# Altium integrated library Lattice ispGDX.IntLib: 49 symbols (part 2 of 6)
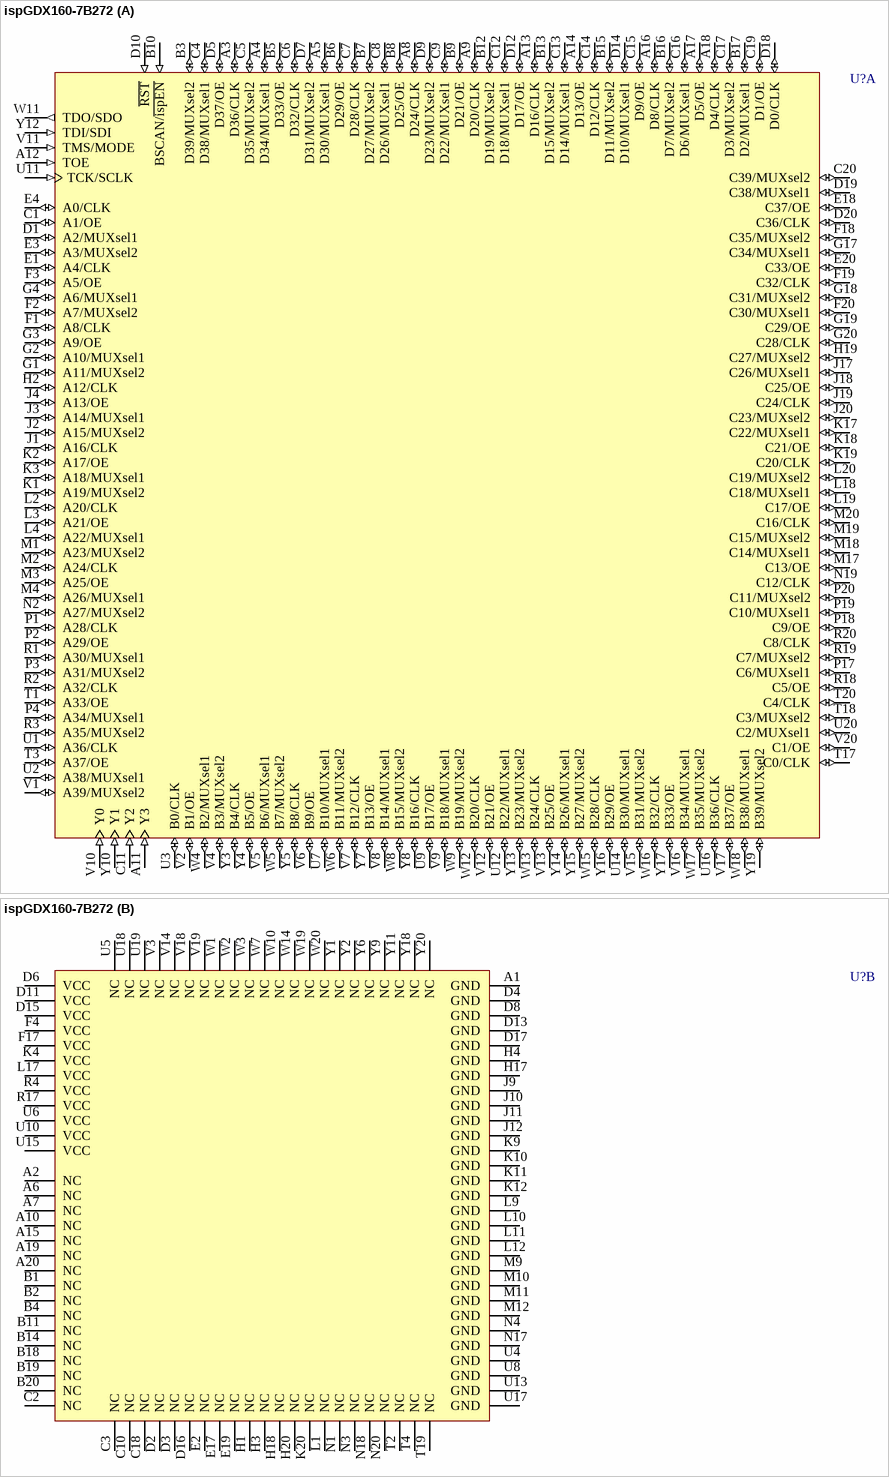
[diagram p45: symbol ispGDX160-7B272]

## ispGDX160-7B272
designator U?
In-System Programmable Generic Digital Crosspoint; Note: NC pins are not to be connected to any active signals, VCC or GND.; Published: 17-Jul-2002; LatestRevisionDate: 13-Apr-2006; LatestRevisionNote: IPC-7351 Footprint Added.; DatasheetVersion: Aug-2000; PackageVersion: pkg_32, Aug-2005; PackageReference: BGA272; Publisher: Altium Limited; PackageDescription: 272-Ball Ball Grid Array (BGA272); ComponentLink1Description: Manufacturer Link; ComponentLink1URL: http://www.latticesemi.com/products/digin/ispGDX/index.cfm; ComponentLink2Description: Datasheet; ComponentLink2URL: http://www.latticesemi.com/account/_download.cfm?AMID=126; ComponentLink3Description: Lattice Login; ComponentLink3URL: http://www.latticesemi.com/account/login.cfm
footprint BGA272 (BGA, 272-Leads, Body 27x27mm, Pitch 1.27mm)
3D model 160-BGA272 (272-Ball Ball Grid Array (BGA272))
part A pins: A3 D36/CLK (io), A4 D34/MUXsel1 (io), A5 D30/MUXsel1 (io), A8 D24/CLK (io), A9 D20/CLK (io), A11 Y3 (in), A12 TOE (in), A13 D16/CLK (io), A14 D13/OE (io), A16 D8/CLK (io), A17 D5/OE (io), A18 D4/CLK (io), B3 D39/MUXsel2 (io), B5 D33/OE (io), B6 D29/OE (io), B7 D27/MUXsel2 (io), B8 D25/OE (io), B9 D21/OE (io), B10 BSCAN/~{ispEN} (in), B12 D19/MUXsel2 (io), B13 D15/MUXsel2 (io), B15 D11/MUXsel2 (io), B16 D7/MUXsel2 (io), B17 D2/MUXsel1 (io), C1 A1/OE (io), C4 D38/MUXsel1 (io), C5 D35/MUXsel2 (io), C6 D32/CLK (io), C7 D28/CLK (io), C8 D26/MUXsel1 (io), C9 D22/MUXsel1 (io), C11 Y2 (in), C12 D18/MUXsel1 (io), C13 D14/MUXsel1 (io), C14 D12/CLK (io), C15 D9/OE (io), C16 D6/MUXsel1 (io), C17 D3/MUXsel2 (io), C19 D1/OE (io), C20 C39/MUXsel2 (io), D1 A2/MUXsel1 (io), D5 D37/OE (io), D7 D31/MUXsel2 (io), D9 D23/MUXsel2 (io), D10 ~{RST} (in), D12 D17/OE (io), D14 D10/MUXsel1 (io), D18 D0/CLK (io), D19 C38/MUXsel1 (io), D20 C36/CLK (io), E1 A4/CLK (io), E3 A3/MUXsel2 (io), E4 A0/CLK (io), E18 C37/OE (io), E20 C33/OE (io), F1 A8/CLK (io), F2 A7/MUXsel2 (io), F3 A5/OE (io), F18 C35/MUXsel2 (io), F19 C32/CLK (io), F20 C30/MUXsel1 (io), G1 A11/MUXsel2 (io), G2 A10/MUXsel1 (io), G3 A9/OE (io), G4 A6/MUXsel1 (io), G17 C34/MUXsel1 (io), G18 C31/MUXsel2 (io), G19 C29/OE (io), G20 C28/CLK (io), H2 A12/CLK (io), H19 C27/MUXsel2 (io), J1 A16/CLK (io), J2 A15/MUXsel2 (io), J3 A14/MUXsel1 (io), J4 A13/OE (io), J17 C26/MUXsel1 (io), J18 C25/OE (io), J19 C24/CLK (io), J20 C23/MUXsel2 (io), K1 A19/MUXsel2 (io), K2 A17/OE (io), K3 A18/MUXsel1 (io), K17 C22/MUXsel1 (io), K18 C21/OE (io), K19 C20/CLK (io), L2 A20/CLK (io), L3 A21/OE (io), L4 A22/MUXsel1 (io), L18 C18/MUXsel1 (io), L19 C17/OE (io), L20 C19/MUXsel2 (io), M1 A23/MUXsel2 (io), M2 A24/CLK (io), M3 A25/OE (io), M4 A26/MUXsel1 (io), M17 C13/OE (io), M18 C14/MUXsel1 (io), M19 C15/MUXsel2 (io), M20 C16/CLK (io), N2 A27/MUXsel2 (io), N19 C12/CLK (io), P1 A28/CLK (io), P2 A29/OE (io), P3 A31/MUXsel2 (io), P4 A34/MUXsel1 (io), P17 C6/MUXsel1 (io), P18 C9/OE (io), P19 C10/MUXsel1 (io), P20 C11/MUXsel2 (io), R1 A30/MUXsel1 (io), R2 A32/CLK (io), R3 A35/MUXsel2 (io), R18 C5/OE (io), R19 C7/MUXsel2 (io), R20 C8/CLK (io), T1 A33/OE (io), T3 A37/OE (io), T17 C0/CLK (io), T18 C3/MUXsel2 (io), T20 C4/CLK (io), U1 A36/CLK (io), U2 A38/MUXsel1 (io), U3 B0/CLK (io), U7 B10/MUXsel1 (io), U9 B17/OE (io), U11 TCK/SCLK (in), U12 B22/MUXsel1 (io), U14 B30/MUXsel1 (io), U16 B36/CLK (io), U20 C2/MUXsel1 (io), V1 A39/MUXsel2 (io), V2 B1/OE (io), V4 B3/MUXsel2 (io), V5 B6/MUXsel1 (io), V6 B9/OE (io), V7 B12/CLK (io), V8 B14/MUXsel1 (io), V9 B18/MUXsel1 (io), V10 Y0 (in), V11 TMS/MODE (in), V12 B21/OE (io), V13 B25/OE (io), V15 B31/MUXsel2 (io), V16 B34/MUXsel1 (io), V17 B37/OE (io), V20 C1/OE (io), W4 B2/MUXsel1 (io), W5 B7/MUXsel2 (io), W6 B11/MUXsel2 (io), W8 B15/MUXsel2 (io), W9 B19/MUXsel2 (io), W11 TDO/SDO (out), W12 B20/CLK (io), W13 B24/CLK (io), W15 B28/CLK (io), W16 B32/CLK (io), W17 B35/MUXsel2 (io), W18 B38/MUXsel1 (io), Y3 B4/CLK (io), Y4 B5/OE (io), Y5 B8/CLK (io), Y7 B13/OE (io), Y8 B16/CLK (io), Y10 Y1 (in), Y12 TDI/SDI (in), Y13 B23/MUXsel2 (io), Y14 B26/MUXsel1 (io), Y15 B27/MUXsel2 (io), Y16 B29/OE (io), Y17 B33/OE (io), Y19 B39/MUXsel2 (io)
part B pins: A1 GND (power), A2 NC, A6 NC, A7 NC, A10 NC, A15 NC, A19 NC, A20 NC, B1 NC, B2 NC, B4 NC, B11 NC, B14 NC, B18 NC, B19 NC, B20 NC, C2 NC, C3 NC, C10 NC, C18 NC, D2 NC, D3 NC, D4 GND (power), D6 VCC (power), D8 GND (power), D11 VCC (power), D13 GND (power), D15 VCC (power), D16 NC, D17 GND (power), E2 NC, E17 NC, E19 NC, F4 VCC (power), F17 VCC (power), H1 NC, H3 NC, H4 GND (power), H17 GND (power), H18 NC, H20 NC, J9 GND (power), J10 GND (power), J11 GND (power), J12 GND (power), K4 VCC (power), K9 GND (power), K10 GND (power), K11 GND (power), K12 GND (power), K20 NC, L1 NC, L9 GND (power), L10 GND (power), L11 GND (power), L12 GND (power), L17 VCC (power), M9 GND (power), M10 GND (power), M11 GND (power), M12 GND (power), N1 NC, N3 NC, N4 GND (power), N17 GND (power), N18 NC, N20 NC, R4 VCC (power), R17 VCC (power), T2 NC, T4 NC, T19 NC, U4 GND (power), U5 NC, U6 VCC (power), U8 GND (power), U10 VCC (power), U13 GND (power), U15 VCC (power), U17 GND (power), U18 NC, U19 NC, V3 NC, V14 NC, V18 NC, V19 NC, W1 NC, W2 NC, W3 NC, W7 NC, W10 NC, W14 NC, W19 NC, W20 NC, Y1 NC, Y2 NC, Y6 NC, Y9 NC, Y11 NC, Y18 NC, Y20 NC

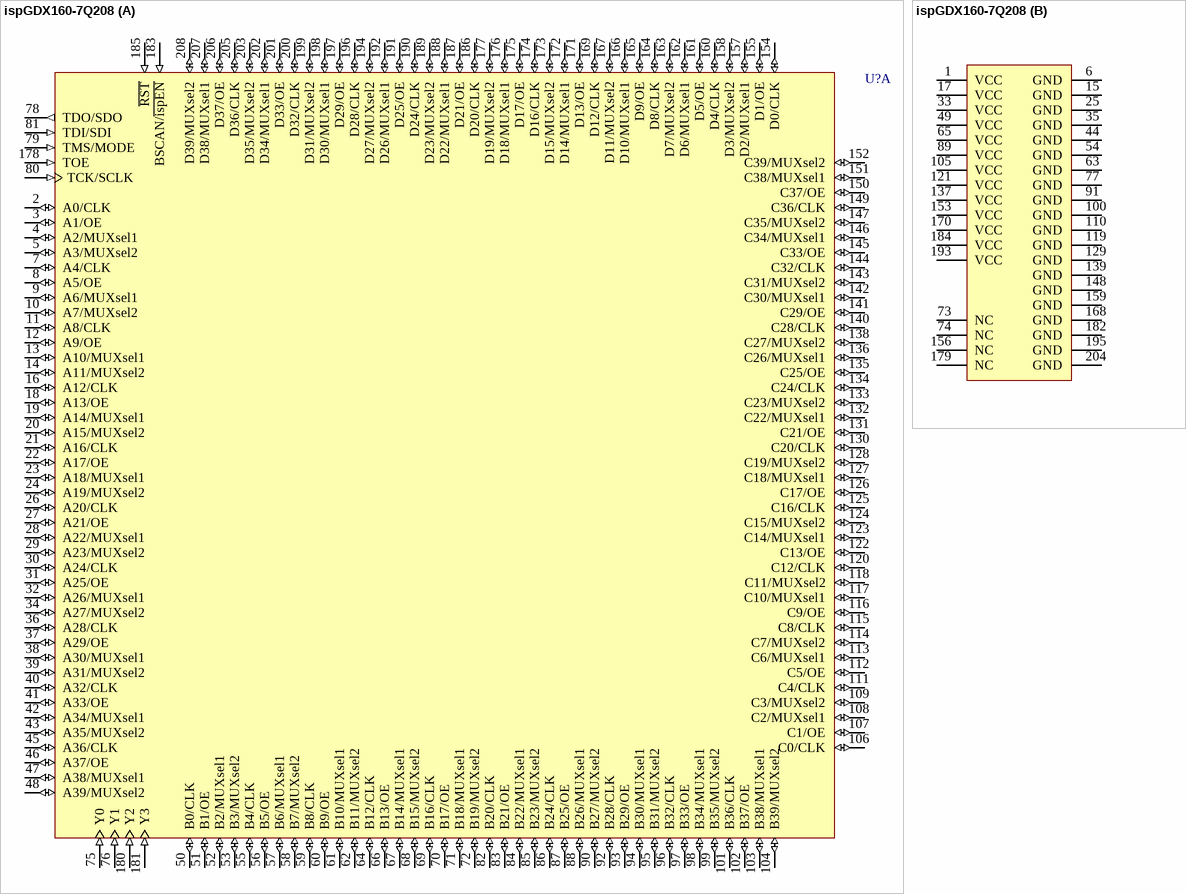
[diagram p7: symbol ispGDX160-7Q208]

## ispGDX160-7Q208
designator U?
In-System Programmable Generic Digital Crosspoint; Note: NC pins are not to be connected to any active signals, VCC or GND.; Published: 17-Jul-2002; LatestRevisionDate: 13-Apr-2006; LatestRevisionNote: IPC-7351 Footprint Added.; DatasheetVersion: Aug-2000; PackageVersion: pkg_32, Aug-2005; PackageReference: PQFP208; Publisher: Altium Limited; PackageDescription: 208-Pin Plastic Quad Flat Pack (PQFP208); Code_JEDEC: MO-143-FAI; ComponentLink1Description: Manufacturer Link; ComponentLink1URL: http://www.latticesemi.com/products/digin/ispGDX/index.cfm; ComponentLink2Description: Datasheet; ComponentLink2URL: http://www.latticesemi.com/account/_download.cfm?AMID=126; ComponentLink3Description: Lattice Login; ComponentLink3URL: http://www.latticesemi.com/account/login.cfm
footprint PQFP208_N (Shrink QFP, 208-Leads, Body 28x28mm, Pitch 0.5mm, IPC Medium Density)
footprint PQFP208_L (Shrink QFP, 208-Leads, Body 28x28mm, Pitch 0.5mm, IPC High Density)
footprint PQFP208_M (Shrink QFP, 208-Leads, Body 28x28mm, Pitch 0.5mm, IPC Low Density)
3D model 160-PQFP208 (208-Pin Plastic Quad Flat Pack (PQFP208))
part A pins: 2 A0/CLK (io), 3 A1/OE (io), 4 A2/MUXsel1 (io), 5 A3/MUXsel2 (io), 7 A4/CLK (io), 8 A5/OE (io), 9 A6/MUXsel1 (io), 10 A7/MUXsel2 (io), 11 A8/CLK (io), 12 A9/OE (io), 13 A10/MUXsel1 (io), 14 A11/MUXsel2 (io), 16 A12/CLK (io), 18 A13/OE (io), 19 A14/MUXsel1 (io), 20 A15/MUXsel2 (io), 21 A16/CLK (io), 22 A17/OE (io), 23 A18/MUXsel1 (io), 24 A19/MUXsel2 (io), 26 A20/CLK (io), 27 A21/OE (io), 28 A22/MUXsel1 (io), 29 A23/MUXsel2 (io), 30 A24/CLK (io), 31 A25/OE (io), 32 A26/MUXsel1 (io), 34 A27/MUXsel2 (io), 36 A28/CLK (io), 37 A29/OE (io), 38 A30/MUXsel1 (io), 39 A31/MUXsel2 (io), 40 A32/CLK (io), 41 A33/OE (io), 42 A34/MUXsel1 (io), 43 A35/MUXsel2 (io), 45 A36/CLK (io), 46 A37/OE (io), 47 A38/MUXsel1 (io), 48 A39/MUXsel2 (io), 50 B0/CLK (io), 51 B1/OE (io), 52 B2/MUXsel1 (io), 53 B3/MUXsel2 (io), 55 B4/CLK (io), 56 B5/OE (io), 57 B6/MUXsel1 (io), 58 B7/MUXsel2 (io), 59 B8/CLK (io), 60 B9/OE (io), 61 B10/MUXsel1 (io), 62 B11/MUXsel2 (io), 64 B12/CLK (io), 66 B13/OE (io), 67 B14/MUXsel1 (io), 68 B15/MUXsel2 (io), 69 B16/CLK (io), 70 B17/OE (io), 71 B18/MUXsel1 (io), 72 B19/MUXsel2 (io), 75 Y0 (in), 76 Y1 (in), 78 TDO/SDO (out), 79 TMS/MODE (in), 80 TCK/SCLK (in), 81 TDI/SDI (in), 82 B20/CLK (io), 83 B21/OE (io), 84 B22/MUXsel1 (io), 85 B23/MUXsel2 (io), 86 B24/CLK (io), 87 B25/OE (io), 88 B26/MUXsel1 (io), 90 B27/MUXsel2 (io), 92 B28/CLK (io), 93 B29/OE (io), 94 B30/MUXsel1 (io), 95 B31/MUXsel2 (io), 96 B32/CLK (io), 97 B33/OE (io), 98 B34/MUXsel1 (io), 99 B35/MUXsel2 (io), 101 B36/CLK (io), 102 B37/OE (io), 103 B38/MUXsel1 (io), 104 B39/MUXsel2 (io), 106 C0/CLK (io), 107 C1/OE (io), 108 C2/MUXsel1 (io), 109 C3/MUXsel2 (io), 111 C4/CLK (io), 112 C5/OE (io), 113 C6/MUXsel1 (io), 114 C7/MUXsel2 (io), 115 C8/CLK (io), 116 C9/OE (io), 117 C10/MUXsel1 (io), 118 C11/MUXsel2 (io), 120 C12/CLK (io), 122 C13/OE (io), 123 C14/MUXsel1 (io), 124 C15/MUXsel2 (io), 125 C16/CLK (io), 126 C17/OE (io), 127 C18/MUXsel1 (io), 128 C19/MUXsel2 (io), 130 C20/CLK (io), 131 C21/OE (io), 132 C22/MUXsel1 (io), 133 C23/MUXsel2 (io), 134 C24/CLK (io), 135 C25/OE (io), 136 C26/MUXsel1 (io), 138 C27/MUXsel2 (io), 140 C28/CLK (io), 141 C29/OE (io), 142 C30/MUXsel1 (io), 143 C31/MUXsel2 (io), 144 C32/CLK (io), 145 C33/OE (io), 146 C34/MUXsel1 (io), 147 C35/MUXsel2 (io), 149 C36/CLK (io), 150 C37/OE (io), 151 C38/MUXsel1 (io), 152 C39/MUXsel2 (io), 154 D0/CLK (io), 155 D1/OE (io), 157 D2/MUXsel1 (io), 158 D3/MUXsel2 (io), 160 D4/CLK (io), 161 D5/OE (io), 162 D6/MUXsel1 (io), 163 D7/MUXsel2 (io), 164 D8/CLK (io), 165 D9/OE (io), 166 D10/MUXsel1 (io), 167 D11/MUXsel2 (io), 169 D12/CLK (io), 171 D13/OE (io), 172 D14/MUXsel1 (io), 173 D15/MUXsel2 (io), 174 D16/CLK (io), 175 D17/OE (io), 176 D18/MUXsel1 (io), 177 D19/MUXsel2 (io), 178 TOE (in), 180 Y2 (in), 181 Y3 (in), 183 BSCAN/~{ispEN} (in), 185 ~{RST} (in), 186 D20/CLK (io), 187 D21/OE (io), 188 D22/MUXsel1 (io), 189 D23/MUXsel2 (io), 190 D24/CLK (io), 191 D25/OE (io), 192 D26/MUXsel1 (io), 194 D27/MUXsel2 (io), 196 D28/CLK (io), 197 D29/OE (io), 198 D30/MUXsel1 (io), 199 D31/MUXsel2 (io), 200 D32/CLK (io), 201 D33/OE (io), 202 D34/MUXsel1 (io), 203 D35/MUXsel2 (io), 205 D36/CLK (io), 206 D37/OE (io), 207 D38/MUXsel1 (io), 208 D39/MUXsel2 (io)
part B pins: 1 VCC (power), 6 GND (power), 15 GND (power), 17 VCC (power), 25 GND (power), 33 VCC (power), 35 GND (power), 44 GND (power), 49 VCC (power), 54 GND (power), 63 GND (power), 65 VCC (power), 73 NC, 74 NC, 77 GND (power), 89 VCC (power), 91 GND (power), 100 GND (power), 105 VCC (power), 110 GND (power), 119 GND (power), 121 VCC (power), 129 GND (power), 137 VCC (power), 139 GND (power), 148 GND (power), 153 VCC (power), 156 NC, 159 GND (power), 168 GND (power), 170 VCC (power), 179 NC, 182 GND (power), 184 VCC (power), 193 VCC (power), 195 GND (power), 204 GND (power)

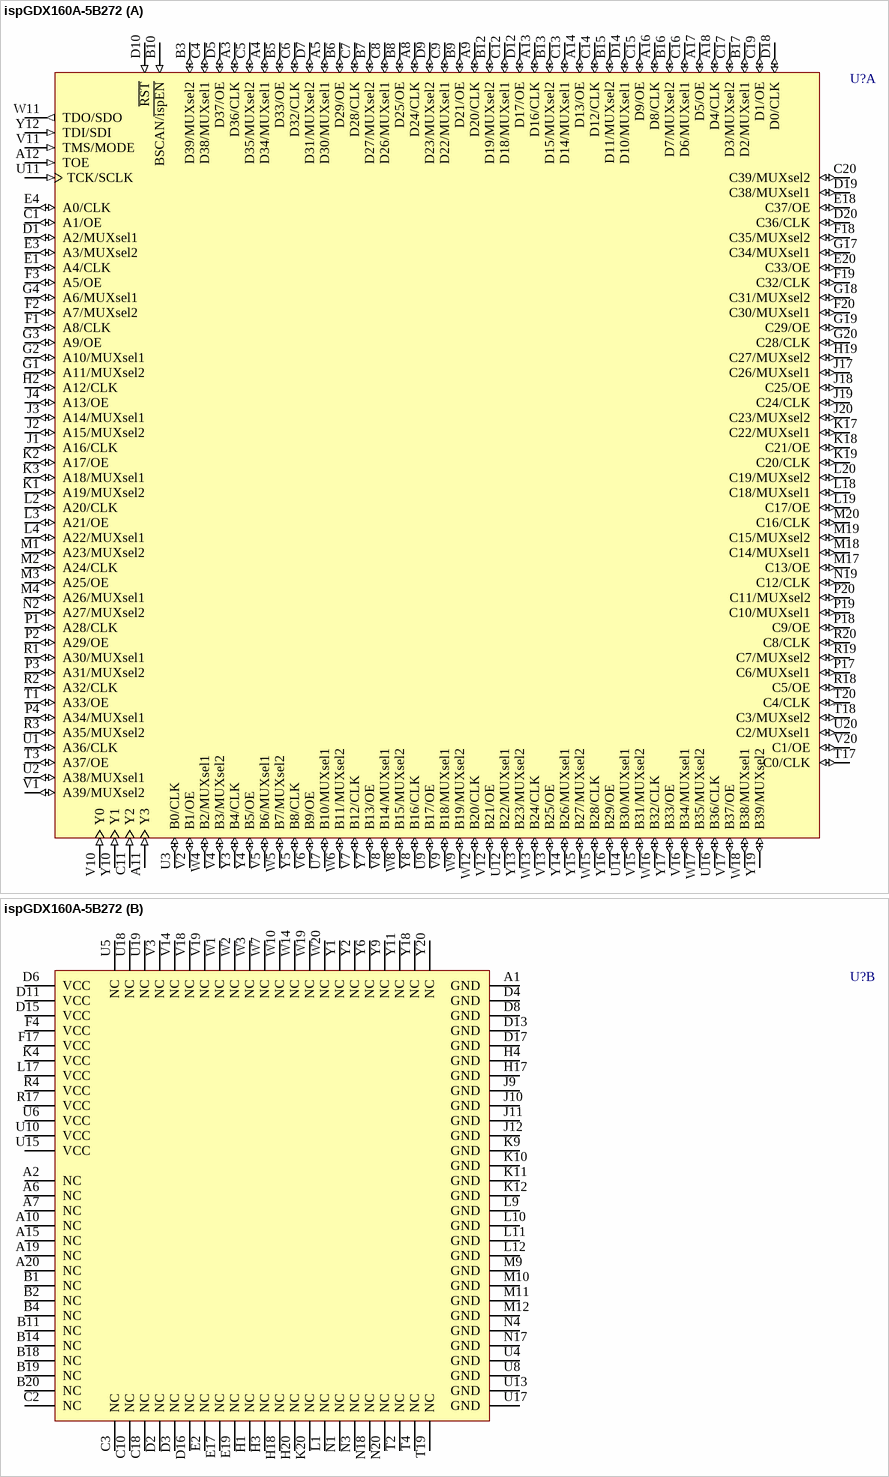
[diagram p8: symbol ispGDX160A-5B272]

## ispGDX160A-5B272
designator U?
In-System Programmable Generic Digital Crosspoint; Note: NC pins are not to be connected to any active signals, VCC or GND.; Published: 17-Jul-2002; LatestRevisionDate: 13-Apr-2006; LatestRevisionNote: IPC-7351 Footprint Added.; DatasheetVersion: Aug-2000; PackageVersion: pkg_32, Aug-2005; PackageReference: BGA272; Publisher: Altium Limited; PackageDescription: 272-Ball Ball Grid Array (BGA272); ComponentLink1Description: Manufacturer Link; ComponentLink1URL: http://www.latticesemi.com/products/digin/ispGDX/index.cfm; ComponentLink2Description: Datasheet; ComponentLink2URL: http://www.latticesemi.com/account/_download.cfm?AMID=126; ComponentLink3Description: Lattice Login; ComponentLink3URL: http://www.latticesemi.com/account/login.cfm
footprint BGA272 (BGA, 272-Leads, Body 27x27mm, Pitch 1.27mm)
3D model 160A-BGA272 (272-Ball Ball Grid Array (BGA272))
part A pins: A3 D36/CLK (io), A4 D34/MUXsel1 (io), A5 D30/MUXsel1 (io), A8 D24/CLK (io), A9 D20/CLK (io), A11 Y3 (in), A12 TOE (in), A13 D16/CLK (io), A14 D13/OE (io), A16 D8/CLK (io), A17 D5/OE (io), A18 D4/CLK (io), B3 D39/MUXsel2 (io), B5 D33/OE (io), B6 D29/OE (io), B7 D27/MUXsel2 (io), B8 D25/OE (io), B9 D21/OE (io), B10 BSCAN/~{ispEN} (in), B12 D19/MUXsel2 (io), B13 D15/MUXsel2 (io), B15 D11/MUXsel2 (io), B16 D7/MUXsel2 (io), B17 D2/MUXsel1 (io), C1 A1/OE (io), C4 D38/MUXsel1 (io), C5 D35/MUXsel2 (io), C6 D32/CLK (io), C7 D28/CLK (io), C8 D26/MUXsel1 (io), C9 D22/MUXsel1 (io), C11 Y2 (in), C12 D18/MUXsel1 (io), C13 D14/MUXsel1 (io), C14 D12/CLK (io), C15 D9/OE (io), C16 D6/MUXsel1 (io), C17 D3/MUXsel2 (io), C19 D1/OE (io), C20 C39/MUXsel2 (io), D1 A2/MUXsel1 (io), D5 D37/OE (io), D7 D31/MUXsel2 (io), D9 D23/MUXsel2 (io), D10 ~{RST} (in), D12 D17/OE (io), D14 D10/MUXsel1 (io), D18 D0/CLK (io), D19 C38/MUXsel1 (io), D20 C36/CLK (io), E1 A4/CLK (io), E3 A3/MUXsel2 (io), E4 A0/CLK (io), E18 C37/OE (io), E20 C33/OE (io), F1 A8/CLK (io), F2 A7/MUXsel2 (io), F3 A5/OE (io), F18 C35/MUXsel2 (io), F19 C32/CLK (io), F20 C30/MUXsel1 (io), G1 A11/MUXsel2 (io), G2 A10/MUXsel1 (io), G3 A9/OE (io), G4 A6/MUXsel1 (io), G17 C34/MUXsel1 (io), G18 C31/MUXsel2 (io), G19 C29/OE (io), G20 C28/CLK (io), H2 A12/CLK (io), H19 C27/MUXsel2 (io), J1 A16/CLK (io), J2 A15/MUXsel2 (io), J3 A14/MUXsel1 (io), J4 A13/OE (io), J17 C26/MUXsel1 (io), J18 C25/OE (io), J19 C24/CLK (io), J20 C23/MUXsel2 (io), K1 A19/MUXsel2 (io), K2 A17/OE (io), K3 A18/MUXsel1 (io), K17 C22/MUXsel1 (io), K18 C21/OE (io), K19 C20/CLK (io), L2 A20/CLK (io), L3 A21/OE (io), L4 A22/MUXsel1 (io), L18 C18/MUXsel1 (io), L19 C17/OE (io), L20 C19/MUXsel2 (io), M1 A23/MUXsel2 (io), M2 A24/CLK (io), M3 A25/OE (io), M4 A26/MUXsel1 (io), M17 C13/OE (io), M18 C14/MUXsel1 (io), M19 C15/MUXsel2 (io), M20 C16/CLK (io), N2 A27/MUXsel2 (io), N19 C12/CLK (io), P1 A28/CLK (io), P2 A29/OE (io), P3 A31/MUXsel2 (io), P4 A34/MUXsel1 (io), P17 C6/MUXsel1 (io), P18 C9/OE (io), P19 C10/MUXsel1 (io), P20 C11/MUXsel2 (io), R1 A30/MUXsel1 (io), R2 A32/CLK (io), R3 A35/MUXsel2 (io), R18 C5/OE (io), R19 C7/MUXsel2 (io), R20 C8/CLK (io), T1 A33/OE (io), T3 A37/OE (io), T17 C0/CLK (io), T18 C3/MUXsel2 (io), T20 C4/CLK (io), U1 A36/CLK (io), U2 A38/MUXsel1 (io), U3 B0/CLK (io), U7 B10/MUXsel1 (io), U9 B17/OE (io), U11 TCK/SCLK (in), U12 B22/MUXsel1 (io), U14 B30/MUXsel1 (io), U16 B36/CLK (io), U20 C2/MUXsel1 (io), V1 A39/MUXsel2 (io), V2 B1/OE (io), V4 B3/MUXsel2 (io), V5 B6/MUXsel1 (io), V6 B9/OE (io), V7 B12/CLK (io), V8 B14/MUXsel1 (io), V9 B18/MUXsel1 (io), V10 Y0 (in), V11 TMS/MODE (in), V12 B21/OE (io), V13 B25/OE (io), V15 B31/MUXsel2 (io), V16 B34/MUXsel1 (io), V17 B37/OE (io), V20 C1/OE (io), W4 B2/MUXsel1 (io), W5 B7/MUXsel2 (io), W6 B11/MUXsel2 (io), W8 B15/MUXsel2 (io), W9 B19/MUXsel2 (io), W11 TDO/SDO (out), W12 B20/CLK (io), W13 B24/CLK (io), W15 B28/CLK (io), W16 B32/CLK (io), W17 B35/MUXsel2 (io), W18 B38/MUXsel1 (io), Y3 B4/CLK (io), Y4 B5/OE (io), Y5 B8/CLK (io), Y7 B13/OE (io), Y8 B16/CLK (io), Y10 Y1 (in), Y12 TDI/SDI (in), Y13 B23/MUXsel2 (io), Y14 B26/MUXsel1 (io), Y15 B27/MUXsel2 (io), Y16 B29/OE (io), Y17 B33/OE (io), Y19 B39/MUXsel2 (io)
part B pins: A1 GND (power), A2 NC, A6 NC, A7 NC, A10 NC, A15 NC, A19 NC, A20 NC, B1 NC, B2 NC, B4 NC, B11 NC, B14 NC, B18 NC, B19 NC, B20 NC, C2 NC, C3 NC, C10 NC, C18 NC, D2 NC, D3 NC, D4 GND (power), D6 VCC (power), D8 GND (power), D11 VCC (power), D13 GND (power), D15 VCC (power), D16 NC, D17 GND (power), E2 NC, E17 NC, E19 NC, F4 VCC (power), F17 VCC (power), H1 NC, H3 NC, H4 GND (power), H17 GND (power), H18 NC, H20 NC, J9 GND (power), J10 GND (power), J11 GND (power), J12 GND (power), K4 VCC (power), K9 GND (power), K10 GND (power), K11 GND (power), K12 GND (power), K20 NC, L1 NC, L9 GND (power), L10 GND (power), L11 GND (power), L12 GND (power), L17 VCC (power), M9 GND (power), M10 GND (power), M11 GND (power), M12 GND (power), N1 NC, N3 NC, N4 GND (power), N17 GND (power), N18 NC, N20 NC, R4 VCC (power), R17 VCC (power), T2 NC, T4 NC, T19 NC, U4 GND (power), U5 NC, U6 VCC (power), U8 GND (power), U10 VCC (power), U13 GND (power), U15 VCC (power), U17 GND (power), U18 NC, U19 NC, V3 NC, V14 NC, V18 NC, V19 NC, W1 NC, W2 NC, W3 NC, W7 NC, W10 NC, W14 NC, W19 NC, W20 NC, Y1 NC, Y2 NC, Y6 NC, Y9 NC, Y11 NC, Y18 NC, Y20 NC

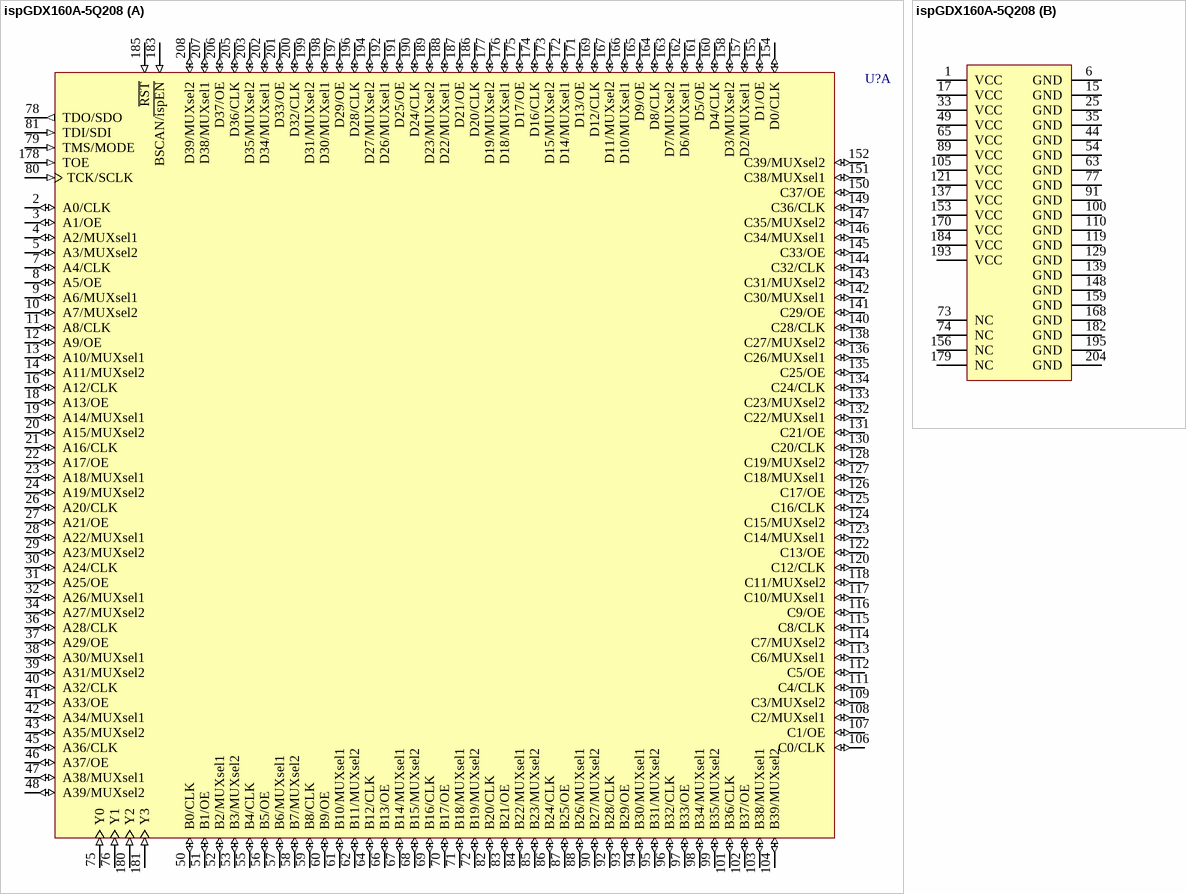
[diagram p9: symbol ispGDX160A-5Q208]

## ispGDX160A-5Q208
designator U?
In-System Programmable Generic Digital Crosspoint; Note: NC pins are not to be connected to any active signals, VCC or GND.; Published: 17-Jul-2002; LatestRevisionDate: 13-Apr-2006; LatestRevisionNote: IPC-7351 Footprint Added.; DatasheetVersion: Aug-2000; PackageVersion: pkg_32, Aug-2005; PackageReference: PQFP208; Publisher: Altium Limited; PackageDescription: 208-Pin Plastic Quad Flat Pack (PQFP208); Code_JEDEC: MO-143-FAI; ComponentLink1Description: Manufacturer Link; ComponentLink1URL: http://www.latticesemi.com/products/digin/ispGDX/index.cfm; ComponentLink2Description: Datasheet; ComponentLink2URL: http://www.latticesemi.com/account/_download.cfm?AMID=126; ComponentLink3Description: Lattice Login; ComponentLink3URL: http://www.latticesemi.com/account/login.cfm
footprint PQFP208_N (Shrink QFP, 208-Leads, Body 28x28mm, Pitch 0.5mm, IPC Medium Density)
footprint PQFP208_L (Shrink QFP, 208-Leads, Body 28x28mm, Pitch 0.5mm, IPC High Density)
footprint PQFP208_M (Shrink QFP, 208-Leads, Body 28x28mm, Pitch 0.5mm, IPC Low Density)
3D model 160A-PQFP208 (208-Pin Plastic Quad Flat Pack (PQFP208))
part A pins: 2 A0/CLK (io), 3 A1/OE (io), 4 A2/MUXsel1 (io), 5 A3/MUXsel2 (io), 7 A4/CLK (io), 8 A5/OE (io), 9 A6/MUXsel1 (io), 10 A7/MUXsel2 (io), 11 A8/CLK (io), 12 A9/OE (io), 13 A10/MUXsel1 (io), 14 A11/MUXsel2 (io), 16 A12/CLK (io), 18 A13/OE (io), 19 A14/MUXsel1 (io), 20 A15/MUXsel2 (io), 21 A16/CLK (io), 22 A17/OE (io), 23 A18/MUXsel1 (io), 24 A19/MUXsel2 (io), 26 A20/CLK (io), 27 A21/OE (io), 28 A22/MUXsel1 (io), 29 A23/MUXsel2 (io), 30 A24/CLK (io), 31 A25/OE (io), 32 A26/MUXsel1 (io), 34 A27/MUXsel2 (io), 36 A28/CLK (io), 37 A29/OE (io), 38 A30/MUXsel1 (io), 39 A31/MUXsel2 (io), 40 A32/CLK (io), 41 A33/OE (io), 42 A34/MUXsel1 (io), 43 A35/MUXsel2 (io), 45 A36/CLK (io), 46 A37/OE (io), 47 A38/MUXsel1 (io), 48 A39/MUXsel2 (io), 50 B0/CLK (io), 51 B1/OE (io), 52 B2/MUXsel1 (io), 53 B3/MUXsel2 (io), 55 B4/CLK (io), 56 B5/OE (io), 57 B6/MUXsel1 (io), 58 B7/MUXsel2 (io), 59 B8/CLK (io), 60 B9/OE (io), 61 B10/MUXsel1 (io), 62 B11/MUXsel2 (io), 64 B12/CLK (io), 66 B13/OE (io), 67 B14/MUXsel1 (io), 68 B15/MUXsel2 (io), 69 B16/CLK (io), 70 B17/OE (io), 71 B18/MUXsel1 (io), 72 B19/MUXsel2 (io), 75 Y0 (in), 76 Y1 (in), 78 TDO/SDO (out), 79 TMS/MODE (in), 80 TCK/SCLK (in), 81 TDI/SDI (in), 82 B20/CLK (io), 83 B21/OE (io), 84 B22/MUXsel1 (io), 85 B23/MUXsel2 (io), 86 B24/CLK (io), 87 B25/OE (io), 88 B26/MUXsel1 (io), 90 B27/MUXsel2 (io), 92 B28/CLK (io), 93 B29/OE (io), 94 B30/MUXsel1 (io), 95 B31/MUXsel2 (io), 96 B32/CLK (io), 97 B33/OE (io), 98 B34/MUXsel1 (io), 99 B35/MUXsel2 (io), 101 B36/CLK (io), 102 B37/OE (io), 103 B38/MUXsel1 (io), 104 B39/MUXsel2 (io), 106 C0/CLK (io), 107 C1/OE (io), 108 C2/MUXsel1 (io), 109 C3/MUXsel2 (io), 111 C4/CLK (io), 112 C5/OE (io), 113 C6/MUXsel1 (io), 114 C7/MUXsel2 (io), 115 C8/CLK (io), 116 C9/OE (io), 117 C10/MUXsel1 (io), 118 C11/MUXsel2 (io), 120 C12/CLK (io), 122 C13/OE (io), 123 C14/MUXsel1 (io), 124 C15/MUXsel2 (io), 125 C16/CLK (io), 126 C17/OE (io), 127 C18/MUXsel1 (io), 128 C19/MUXsel2 (io), 130 C20/CLK (io), 131 C21/OE (io), 132 C22/MUXsel1 (io), 133 C23/MUXsel2 (io), 134 C24/CLK (io), 135 C25/OE (io), 136 C26/MUXsel1 (io), 138 C27/MUXsel2 (io), 140 C28/CLK (io), 141 C29/OE (io), 142 C30/MUXsel1 (io), 143 C31/MUXsel2 (io), 144 C32/CLK (io), 145 C33/OE (io), 146 C34/MUXsel1 (io), 147 C35/MUXsel2 (io), 149 C36/CLK (io), 150 C37/OE (io), 151 C38/MUXsel1 (io), 152 C39/MUXsel2 (io), 154 D0/CLK (io), 155 D1/OE (io), 157 D2/MUXsel1 (io), 158 D3/MUXsel2 (io), 160 D4/CLK (io), 161 D5/OE (io), 162 D6/MUXsel1 (io), 163 D7/MUXsel2 (io), 164 D8/CLK (io), 165 D9/OE (io), 166 D10/MUXsel1 (io), 167 D11/MUXsel2 (io), 169 D12/CLK (io), 171 D13/OE (io), 172 D14/MUXsel1 (io), 173 D15/MUXsel2 (io), 174 D16/CLK (io), 175 D17/OE (io), 176 D18/MUXsel1 (io), 177 D19/MUXsel2 (io), 178 TOE (in), 180 Y2 (in), 181 Y3 (in), 183 BSCAN/~{ispEN} (in), 185 ~{RST} (in), 186 D20/CLK (io), 187 D21/OE (io), 188 D22/MUXsel1 (io), 189 D23/MUXsel2 (io), 190 D24/CLK (io), 191 D25/OE (io), 192 D26/MUXsel1 (io), 194 D27/MUXsel2 (io), 196 D28/CLK (io), 197 D29/OE (io), 198 D30/MUXsel1 (io), 199 D31/MUXsel2 (io), 200 D32/CLK (io), 201 D33/OE (io), 202 D34/MUXsel1 (io), 203 D35/MUXsel2 (io), 205 D36/CLK (io), 206 D37/OE (io), 207 D38/MUXsel1 (io), 208 D39/MUXsel2 (io)
part B pins: 1 VCC (power), 6 GND (power), 15 GND (power), 17 VCC (power), 25 GND (power), 33 VCC (power), 35 GND (power), 44 GND (power), 49 VCC (power), 54 GND (power), 63 GND (power), 65 VCC (power), 73 NC, 74 NC, 77 GND (power), 89 VCC (power), 91 GND (power), 100 GND (power), 105 VCC (power), 110 GND (power), 119 GND (power), 121 VCC (power), 129 GND (power), 137 VCC (power), 139 GND (power), 148 GND (power), 153 VCC (power), 156 NC, 159 GND (power), 168 GND (power), 170 VCC (power), 179 NC, 182 GND (power), 184 VCC (power), 193 VCC (power), 195 GND (power), 204 GND (power)

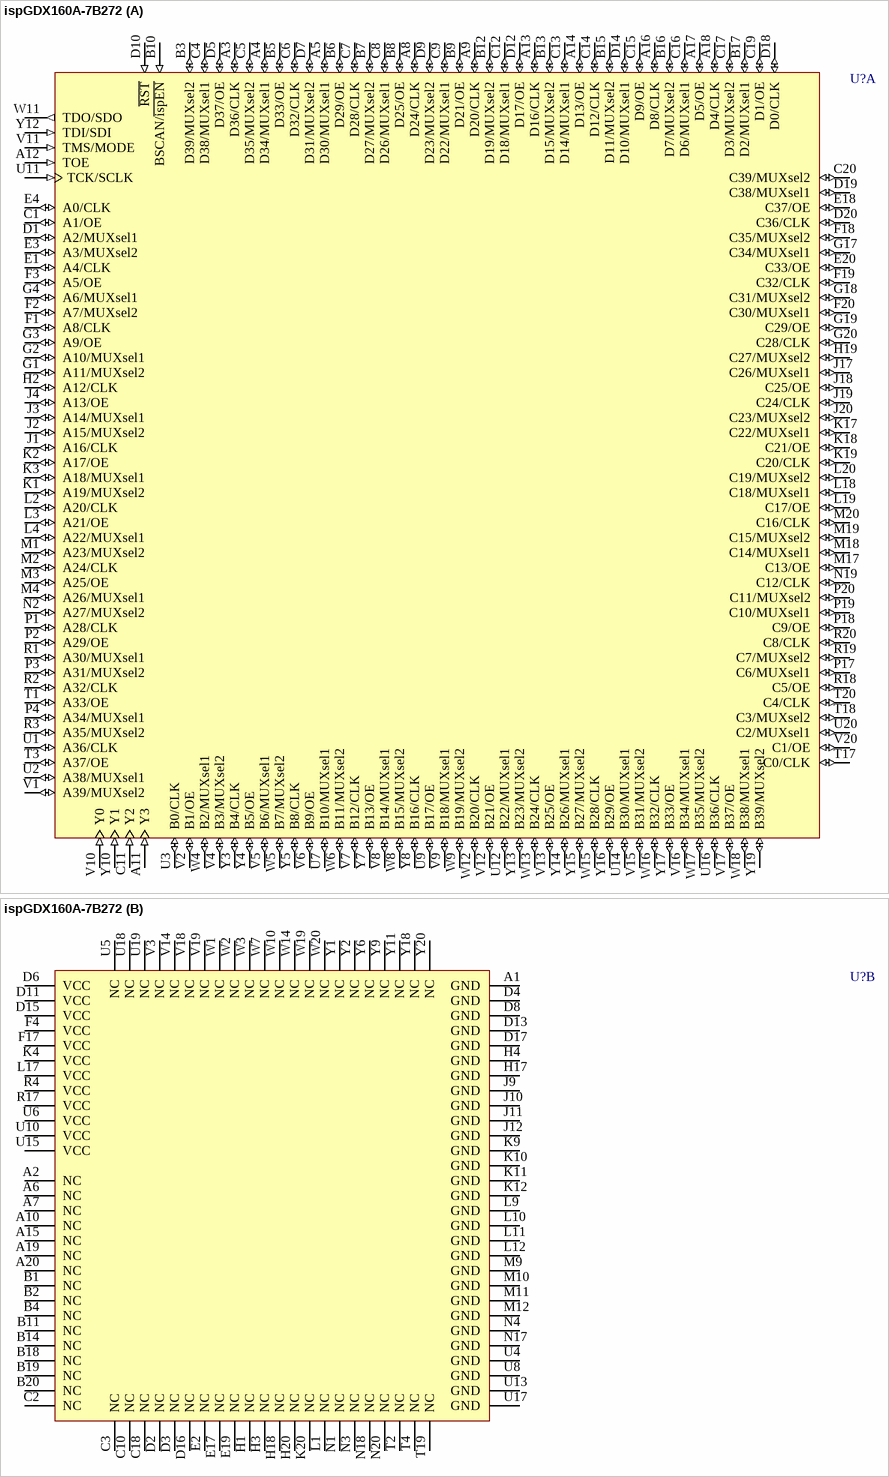
[diagram p10: symbol ispGDX160A-7B272]

## ispGDX160A-7B272
designator U?
In-System Programmable Generic Digital Crosspoint; Note: NC pins are not to be connected to any active signals, VCC or GND.; Published: 17-Jul-2002; LatestRevisionDate: 13-Apr-2006; LatestRevisionNote: IPC-7351 Footprint Added.; DatasheetVersion: Aug-2000; PackageVersion: pkg_32, Aug-2005; PackageReference: BGA272; Publisher: Altium Limited; PackageDescription: 272-Ball Ball Grid Array (BGA272); ComponentLink1Description: Manufacturer Link; ComponentLink1URL: http://www.latticesemi.com/products/digin/ispGDX/index.cfm; ComponentLink2Description: Datasheet; ComponentLink2URL: http://www.latticesemi.com/account/_download.cfm?AMID=126; ComponentLink3Description: Lattice Login; ComponentLink3URL: http://www.latticesemi.com/account/login.cfm
footprint BGA272 (BGA, 272-Leads, Body 27x27mm, Pitch 1.27mm)
3D model 160A-BGA272 (272-Ball Ball Grid Array (BGA272))
part A pins: A3 D36/CLK (io), A4 D34/MUXsel1 (io), A5 D30/MUXsel1 (io), A8 D24/CLK (io), A9 D20/CLK (io), A11 Y3 (in), A12 TOE (in), A13 D16/CLK (io), A14 D13/OE (io), A16 D8/CLK (io), A17 D5/OE (io), A18 D4/CLK (io), B3 D39/MUXsel2 (io), B5 D33/OE (io), B6 D29/OE (io), B7 D27/MUXsel2 (io), B8 D25/OE (io), B9 D21/OE (io), B10 BSCAN/~{ispEN} (in), B12 D19/MUXsel2 (io), B13 D15/MUXsel2 (io), B15 D11/MUXsel2 (io), B16 D7/MUXsel2 (io), B17 D2/MUXsel1 (io), C1 A1/OE (io), C4 D38/MUXsel1 (io), C5 D35/MUXsel2 (io), C6 D32/CLK (io), C7 D28/CLK (io), C8 D26/MUXsel1 (io), C9 D22/MUXsel1 (io), C11 Y2 (in), C12 D18/MUXsel1 (io), C13 D14/MUXsel1 (io), C14 D12/CLK (io), C15 D9/OE (io), C16 D6/MUXsel1 (io), C17 D3/MUXsel2 (io), C19 D1/OE (io), C20 C39/MUXsel2 (io), D1 A2/MUXsel1 (io), D5 D37/OE (io), D7 D31/MUXsel2 (io), D9 D23/MUXsel2 (io), D10 ~{RST} (in), D12 D17/OE (io), D14 D10/MUXsel1 (io), D18 D0/CLK (io), D19 C38/MUXsel1 (io), D20 C36/CLK (io), E1 A4/CLK (io), E3 A3/MUXsel2 (io), E4 A0/CLK (io), E18 C37/OE (io), E20 C33/OE (io), F1 A8/CLK (io), F2 A7/MUXsel2 (io), F3 A5/OE (io), F18 C35/MUXsel2 (io), F19 C32/CLK (io), F20 C30/MUXsel1 (io), G1 A11/MUXsel2 (io), G2 A10/MUXsel1 (io), G3 A9/OE (io), G4 A6/MUXsel1 (io), G17 C34/MUXsel1 (io), G18 C31/MUXsel2 (io), G19 C29/OE (io), G20 C28/CLK (io), H2 A12/CLK (io), H19 C27/MUXsel2 (io), J1 A16/CLK (io), J2 A15/MUXsel2 (io), J3 A14/MUXsel1 (io), J4 A13/OE (io), J17 C26/MUXsel1 (io), J18 C25/OE (io), J19 C24/CLK (io), J20 C23/MUXsel2 (io), K1 A19/MUXsel2 (io), K2 A17/OE (io), K3 A18/MUXsel1 (io), K17 C22/MUXsel1 (io), K18 C21/OE (io), K19 C20/CLK (io), L2 A20/CLK (io), L3 A21/OE (io), L4 A22/MUXsel1 (io), L18 C18/MUXsel1 (io), L19 C17/OE (io), L20 C19/MUXsel2 (io), M1 A23/MUXsel2 (io), M2 A24/CLK (io), M3 A25/OE (io), M4 A26/MUXsel1 (io), M17 C13/OE (io), M18 C14/MUXsel1 (io), M19 C15/MUXsel2 (io), M20 C16/CLK (io), N2 A27/MUXsel2 (io), N19 C12/CLK (io), P1 A28/CLK (io), P2 A29/OE (io), P3 A31/MUXsel2 (io), P4 A34/MUXsel1 (io), P17 C6/MUXsel1 (io), P18 C9/OE (io), P19 C10/MUXsel1 (io), P20 C11/MUXsel2 (io), R1 A30/MUXsel1 (io), R2 A32/CLK (io), R3 A35/MUXsel2 (io), R18 C5/OE (io), R19 C7/MUXsel2 (io), R20 C8/CLK (io), T1 A33/OE (io), T3 A37/OE (io), T17 C0/CLK (io), T18 C3/MUXsel2 (io), T20 C4/CLK (io), U1 A36/CLK (io), U2 A38/MUXsel1 (io), U3 B0/CLK (io), U7 B10/MUXsel1 (io), U9 B17/OE (io), U11 TCK/SCLK (in), U12 B22/MUXsel1 (io), U14 B30/MUXsel1 (io), U16 B36/CLK (io), U20 C2/MUXsel1 (io), V1 A39/MUXsel2 (io), V2 B1/OE (io), V4 B3/MUXsel2 (io), V5 B6/MUXsel1 (io), V6 B9/OE (io), V7 B12/CLK (io), V8 B14/MUXsel1 (io), V9 B18/MUXsel1 (io), V10 Y0 (in), V11 TMS/MODE (in), V12 B21/OE (io), V13 B25/OE (io), V15 B31/MUXsel2 (io), V16 B34/MUXsel1 (io), V17 B37/OE (io), V20 C1/OE (io), W4 B2/MUXsel1 (io), W5 B7/MUXsel2 (io), W6 B11/MUXsel2 (io), W8 B15/MUXsel2 (io), W9 B19/MUXsel2 (io), W11 TDO/SDO (out), W12 B20/CLK (io), W13 B24/CLK (io), W15 B28/CLK (io), W16 B32/CLK (io), W17 B35/MUXsel2 (io), W18 B38/MUXsel1 (io), Y3 B4/CLK (io), Y4 B5/OE (io), Y5 B8/CLK (io), Y7 B13/OE (io), Y8 B16/CLK (io), Y10 Y1 (in), Y12 TDI/SDI (in), Y13 B23/MUXsel2 (io), Y14 B26/MUXsel1 (io), Y15 B27/MUXsel2 (io), Y16 B29/OE (io), Y17 B33/OE (io), Y19 B39/MUXsel2 (io)
part B pins: A1 GND (power), A2 NC, A6 NC, A7 NC, A10 NC, A15 NC, A19 NC, A20 NC, B1 NC, B2 NC, B4 NC, B11 NC, B14 NC, B18 NC, B19 NC, B20 NC, C2 NC, C3 NC, C10 NC, C18 NC, D2 NC, D3 NC, D4 GND (power), D6 VCC (power), D8 GND (power), D11 VCC (power), D13 GND (power), D15 VCC (power), D16 NC, D17 GND (power), E2 NC, E17 NC, E19 NC, F4 VCC (power), F17 VCC (power), H1 NC, H3 NC, H4 GND (power), H17 GND (power), H18 NC, H20 NC, J9 GND (power), J10 GND (power), J11 GND (power), J12 GND (power), K4 VCC (power), K9 GND (power), K10 GND (power), K11 GND (power), K12 GND (power), K20 NC, L1 NC, L9 GND (power), L10 GND (power), L11 GND (power), L12 GND (power), L17 VCC (power), M9 GND (power), M10 GND (power), M11 GND (power), M12 GND (power), N1 NC, N3 NC, N4 GND (power), N17 GND (power), N18 NC, N20 NC, R4 VCC (power), R17 VCC (power), T2 NC, T4 NC, T19 NC, U4 GND (power), U5 NC, U6 VCC (power), U8 GND (power), U10 VCC (power), U13 GND (power), U15 VCC (power), U17 GND (power), U18 NC, U19 NC, V3 NC, V14 NC, V18 NC, V19 NC, W1 NC, W2 NC, W3 NC, W7 NC, W10 NC, W14 NC, W19 NC, W20 NC, Y1 NC, Y2 NC, Y6 NC, Y9 NC, Y11 NC, Y18 NC, Y20 NC

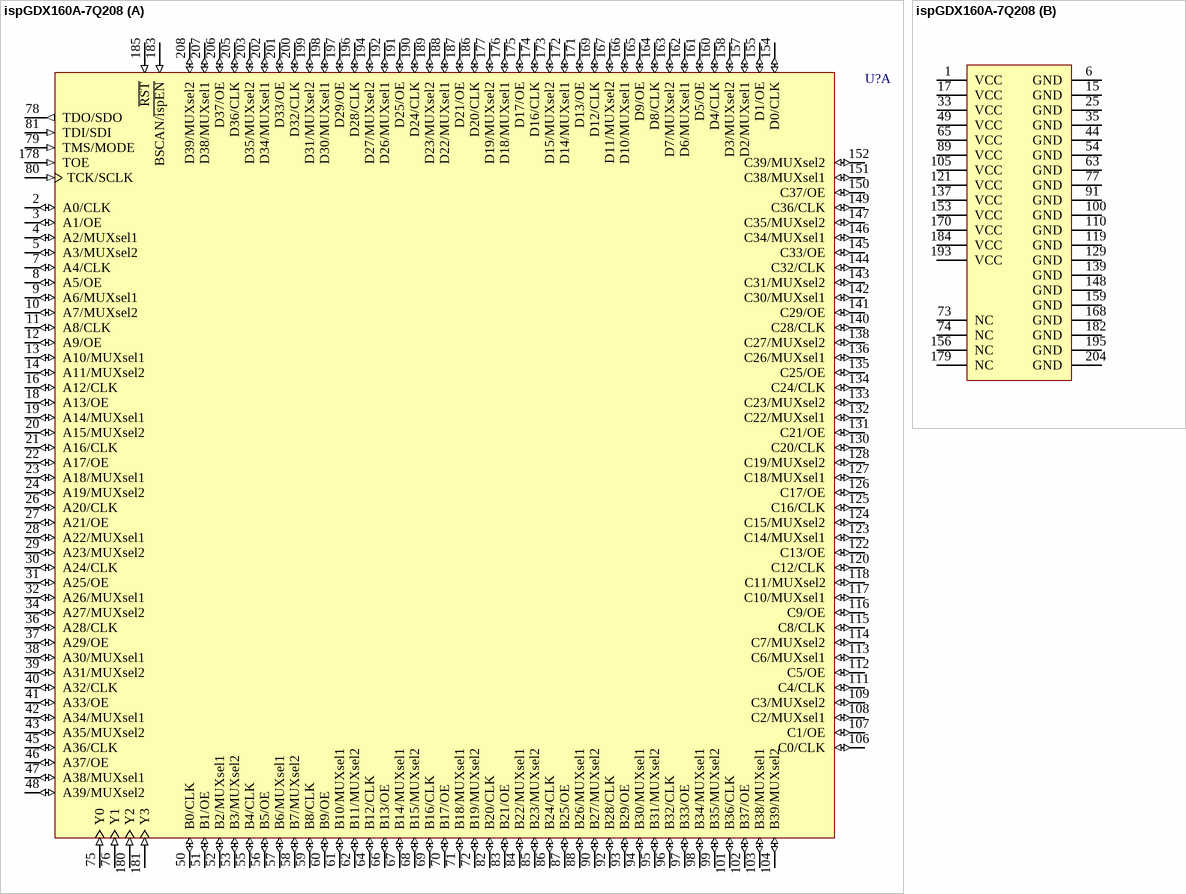
[diagram p11: symbol ispGDX160A-7Q208]

## ispGDX160A-7Q208
designator U?
In-System Programmable Generic Digital Crosspoint; Note: NC pins are not to be connected to any active signals, VCC or GND.; Published: 17-Jul-2002; LatestRevisionDate: 13-Apr-2006; LatestRevisionNote: IPC-7351 Footprint Added.; DatasheetVersion: Aug-2000; PackageVersion: pkg_32, Aug-2005; PackageReference: PQFP208; Publisher: Altium Limited; PackageDescription: 208-Pin Plastic Quad Flat Pack (PQFP208); Code_JEDEC: MO-143-FAI; ComponentLink1Description: Manufacturer Link; ComponentLink1URL: http://www.latticesemi.com/products/digin/ispGDX/index.cfm; ComponentLink2Description: Datasheet; ComponentLink2URL: http://www.latticesemi.com/account/_download.cfm?AMID=126; ComponentLink3Description: Lattice Login; ComponentLink3URL: http://www.latticesemi.com/account/login.cfm
footprint PQFP208_N (Shrink QFP, 208-Leads, Body 28x28mm, Pitch 0.5mm, IPC Medium Density)
footprint PQFP208_L (Shrink QFP, 208-Leads, Body 28x28mm, Pitch 0.5mm, IPC High Density)
footprint PQFP208_M (Shrink QFP, 208-Leads, Body 28x28mm, Pitch 0.5mm, IPC Low Density)
3D model 160A-PQFP208 (208-Pin Plastic Quad Flat Pack (PQFP208))
part A pins: 2 A0/CLK (io), 3 A1/OE (io), 4 A2/MUXsel1 (io), 5 A3/MUXsel2 (io), 7 A4/CLK (io), 8 A5/OE (io), 9 A6/MUXsel1 (io), 10 A7/MUXsel2 (io), 11 A8/CLK (io), 12 A9/OE (io), 13 A10/MUXsel1 (io), 14 A11/MUXsel2 (io), 16 A12/CLK (io), 18 A13/OE (io), 19 A14/MUXsel1 (io), 20 A15/MUXsel2 (io), 21 A16/CLK (io), 22 A17/OE (io), 23 A18/MUXsel1 (io), 24 A19/MUXsel2 (io), 26 A20/CLK (io), 27 A21/OE (io), 28 A22/MUXsel1 (io), 29 A23/MUXsel2 (io), 30 A24/CLK (io), 31 A25/OE (io), 32 A26/MUXsel1 (io), 34 A27/MUXsel2 (io), 36 A28/CLK (io), 37 A29/OE (io), 38 A30/MUXsel1 (io), 39 A31/MUXsel2 (io), 40 A32/CLK (io), 41 A33/OE (io), 42 A34/MUXsel1 (io), 43 A35/MUXsel2 (io), 45 A36/CLK (io), 46 A37/OE (io), 47 A38/MUXsel1 (io), 48 A39/MUXsel2 (io), 50 B0/CLK (io), 51 B1/OE (io), 52 B2/MUXsel1 (io), 53 B3/MUXsel2 (io), 55 B4/CLK (io), 56 B5/OE (io), 57 B6/MUXsel1 (io), 58 B7/MUXsel2 (io), 59 B8/CLK (io), 60 B9/OE (io), 61 B10/MUXsel1 (io), 62 B11/MUXsel2 (io), 64 B12/CLK (io), 66 B13/OE (io), 67 B14/MUXsel1 (io), 68 B15/MUXsel2 (io), 69 B16/CLK (io), 70 B17/OE (io), 71 B18/MUXsel1 (io), 72 B19/MUXsel2 (io), 75 Y0 (in), 76 Y1 (in), 78 TDO/SDO (out), 79 TMS/MODE (in), 80 TCK/SCLK (in), 81 TDI/SDI (in), 82 B20/CLK (io), 83 B21/OE (io), 84 B22/MUXsel1 (io), 85 B23/MUXsel2 (io), 86 B24/CLK (io), 87 B25/OE (io), 88 B26/MUXsel1 (io), 90 B27/MUXsel2 (io), 92 B28/CLK (io), 93 B29/OE (io), 94 B30/MUXsel1 (io), 95 B31/MUXsel2 (io), 96 B32/CLK (io), 97 B33/OE (io), 98 B34/MUXsel1 (io), 99 B35/MUXsel2 (io), 101 B36/CLK (io), 102 B37/OE (io), 103 B38/MUXsel1 (io), 104 B39/MUXsel2 (io), 106 C0/CLK (io), 107 C1/OE (io), 108 C2/MUXsel1 (io), 109 C3/MUXsel2 (io), 111 C4/CLK (io), 112 C5/OE (io), 113 C6/MUXsel1 (io), 114 C7/MUXsel2 (io), 115 C8/CLK (io), 116 C9/OE (io), 117 C10/MUXsel1 (io), 118 C11/MUXsel2 (io), 120 C12/CLK (io), 122 C13/OE (io), 123 C14/MUXsel1 (io), 124 C15/MUXsel2 (io), 125 C16/CLK (io), 126 C17/OE (io), 127 C18/MUXsel1 (io), 128 C19/MUXsel2 (io), 130 C20/CLK (io), 131 C21/OE (io), 132 C22/MUXsel1 (io), 133 C23/MUXsel2 (io), 134 C24/CLK (io), 135 C25/OE (io), 136 C26/MUXsel1 (io), 138 C27/MUXsel2 (io), 140 C28/CLK (io), 141 C29/OE (io), 142 C30/MUXsel1 (io), 143 C31/MUXsel2 (io), 144 C32/CLK (io), 145 C33/OE (io), 146 C34/MUXsel1 (io), 147 C35/MUXsel2 (io), 149 C36/CLK (io), 150 C37/OE (io), 151 C38/MUXsel1 (io), 152 C39/MUXsel2 (io), 154 D0/CLK (io), 155 D1/OE (io), 157 D2/MUXsel1 (io), 158 D3/MUXsel2 (io), 160 D4/CLK (io), 161 D5/OE (io), 162 D6/MUXsel1 (io), 163 D7/MUXsel2 (io), 164 D8/CLK (io), 165 D9/OE (io), 166 D10/MUXsel1 (io), 167 D11/MUXsel2 (io), 169 D12/CLK (io), 171 D13/OE (io), 172 D14/MUXsel1 (io), 173 D15/MUXsel2 (io), 174 D16/CLK (io), 175 D17/OE (io), 176 D18/MUXsel1 (io), 177 D19/MUXsel2 (io), 178 TOE (in), 180 Y2 (in), 181 Y3 (in), 183 BSCAN/~{ispEN} (in), 185 ~{RST} (in), 186 D20/CLK (io), 187 D21/OE (io), 188 D22/MUXsel1 (io), 189 D23/MUXsel2 (io), 190 D24/CLK (io), 191 D25/OE (io), 192 D26/MUXsel1 (io), 194 D27/MUXsel2 (io), 196 D28/CLK (io), 197 D29/OE (io), 198 D30/MUXsel1 (io), 199 D31/MUXsel2 (io), 200 D32/CLK (io), 201 D33/OE (io), 202 D34/MUXsel1 (io), 203 D35/MUXsel2 (io), 205 D36/CLK (io), 206 D37/OE (io), 207 D38/MUXsel1 (io), 208 D39/MUXsel2 (io)
part B pins: 1 VCC (power), 6 GND (power), 15 GND (power), 17 VCC (power), 25 GND (power), 33 VCC (power), 35 GND (power), 44 GND (power), 49 VCC (power), 54 GND (power), 63 GND (power), 65 VCC (power), 73 NC, 74 NC, 77 GND (power), 89 VCC (power), 91 GND (power), 100 GND (power), 105 VCC (power), 110 GND (power), 119 GND (power), 121 VCC (power), 129 GND (power), 137 VCC (power), 139 GND (power), 148 GND (power), 153 VCC (power), 156 NC, 159 GND (power), 168 GND (power), 170 VCC (power), 179 NC, 182 GND (power), 184 VCC (power), 193 VCC (power), 195 GND (power), 204 GND (power)

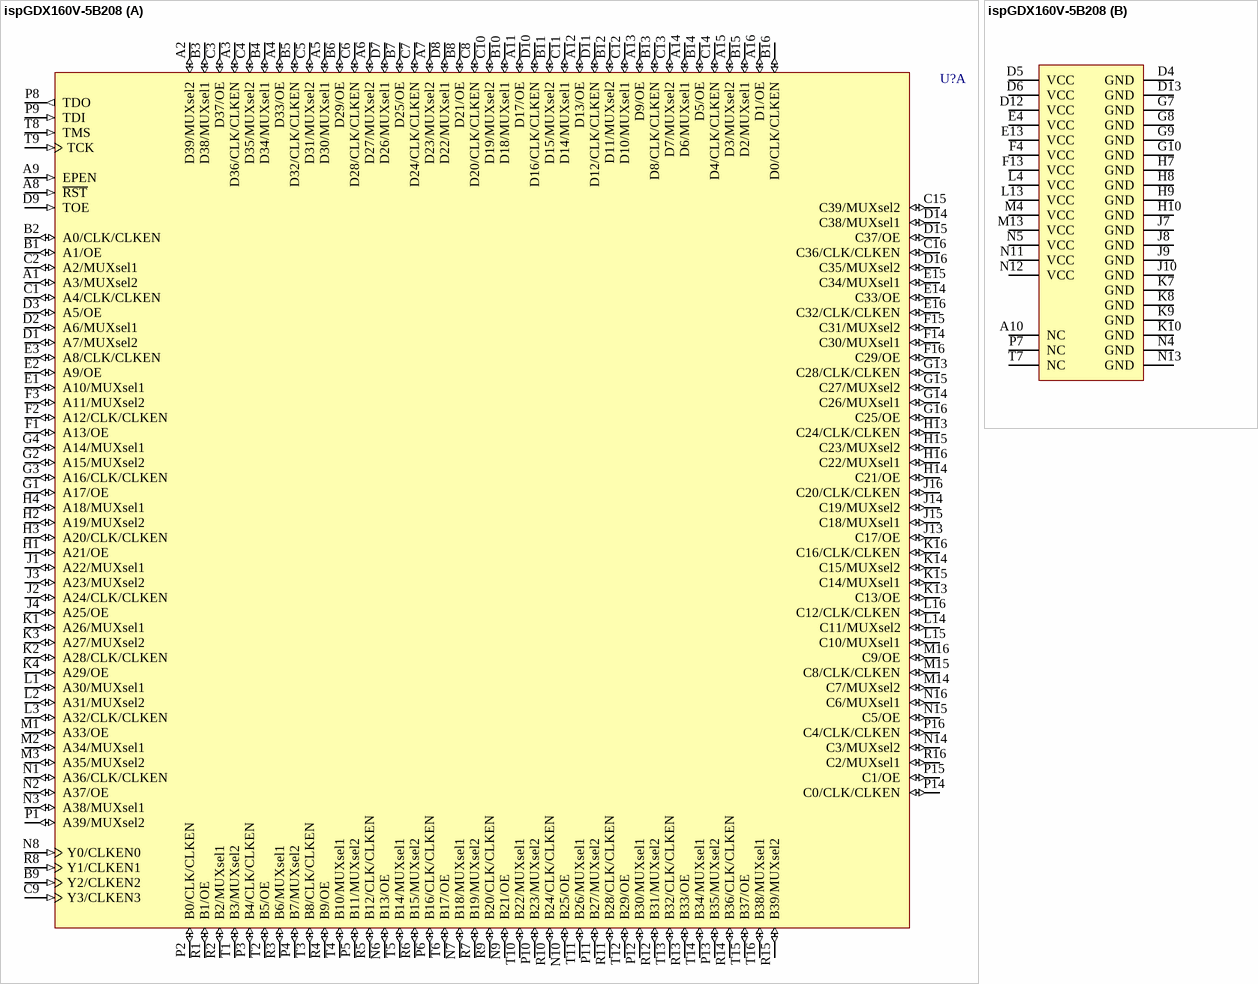
[diagram p12: symbol ispGDX160V-5B208]

## ispGDX160V-5B208
designator U?
In-System Programmable 3.3V Generic Digital Crosspoint; Note: NC pins are not to be connected to any active signals, VCC or GND.; Published: 17-Jul-2002; LatestRevisionDate: 13-Apr-2006; LatestRevisionNote: IPC-7351 Footprint Added.; DatasheetVersion: Jul-2000; PackageVersion: pkg_32, Aug-2005; PackageReference: fpBGA208; Publisher: Altium Limited; PackageDescription: 208-Ball Fine Pitch Ball Grid Array (fpBGA208); ComponentLink1Description: Manufacturer Link; ComponentLink1URL: http://www.latticesemi.com/products/digin/ispGDXV/index.cfm; ComponentLink2Description: Datasheet; ComponentLink2URL: http://www.latticesemi.com/account/_download.cfm?AMID=126; ComponentLink3Description: Lattice Login; ComponentLink3URL: http://www.latticesemi.com/account/login.cfm
footprint fpBGA208 (BGA, 208-Leads, Body 17x17mm, Pitch 1mm)
3D model 160V-fpBGA208 (208-Ball Fine Pitch Ball Grid Array (fpBGA208))
part A pins: A1 A3/MUXsel2 (io), A2 D39/MUXsel2 (io), A3 D36/CLK/CLKEN (io), A4 D33/OE (io), A5 D30/MUXsel1 (io), A6 D27/MUXsel2 (io), A7 D23/MUXsel2 (io), A8 ~{RST} (in), A9 EPEN (in), A11 D17/OE (io), A12 D13/OE (io), A13 D9/OE (io), A14 D6/MUXsel1 (io), A15 D3/MUXsel2 (io), A16 D1/OE (io), B1 A1/OE (io), B2 A0/CLK/CLKEN (io), B3 D38/MUXsel1 (io), B4 D34/MUXsel1 (io), B5 D32/CLK/CLKEN (io), B6 D29/OE (io), B7 D25/OE (io), B8 D21/OE (io), B9 Y2/CLKEN2 (in), B10 D18/MUXsel1 (io), B11 D15/MUXsel2 (io), B12 D11/MUXsel2 (io), B13 D8/CLK/CLKEN (io), B14 D5/OE (io), B15 D2/MUXsel1 (io), B16 D0/CLK/CLKEN (io), C1 A4/CLK/CLKEN (io), C2 A2/MUXsel1 (io), C3 D37/OE (io), C4 D35/MUXsel2 (io), C5 D31/MUXsel2 (io), C6 D28/CLK/CLKEN (io), C7 D24/CLK/CLKEN (io), C8 D20/CLK/CLKEN (io), C9 Y3/CLKEN3 (in), C10 D19/MUXsel2 (io), C11 D14/MUXsel1 (io), C12 D10/MUXsel1 (io), C13 D7/MUXsel2 (io), C14 D4/CLK/CLKEN (io), C15 C39/MUXsel2 (io), C16 C36/CLK/CLKEN (io), D1 A7/MUXsel2 (io), D2 A6/MUXsel1 (io), D3 A5/OE (io), D7 D26/MUXsel1 (io), D8 D22/MUXsel1 (io), D9 TOE (in), D10 D16/CLK/CLKEN (io), D11 D12/CLK/CLKEN (io), D14 C38/MUXsel1 (io), D15 C37/OE (io), D16 C35/MUXsel2 (io), E1 A10/MUXsel1 (io), E2 A9/OE (io), E3 A8/CLK/CLKEN (io), E14 C33/OE (io), E15 C34/MUXsel1 (io), E16 C32/CLK/CLKEN (io), F1 A13/OE (io), F2 A12/CLK/CLKEN (io), F3 A11/MUXsel2 (io), F14 C30/MUXsel1 (io), F15 C31/MUXsel2 (io), F16 C29/OE (io), G1 A17/OE (io), G2 A15/MUXsel2 (io), G3 A16/CLK/CLKEN (io), G4 A14/MUXsel1 (io), G13 C28/CLK/CLKEN (io), G14 C26/MUXsel1 (io), G15 C27/MUXsel2 (io), G16 C25/OE (io), H1 A21/OE (io), H2 A19/MUXsel2 (io), H3 A20/CLK/CLKEN (io), H4 A18/MUXsel1 (io), H13 C24/CLK/CLKEN (io), H14 C21/OE (io), H15 C23/MUXsel2 (io), H16 C22/MUXsel1 (io), J1 A22/MUXsel1 (io), J2 A24/CLK/CLKEN (io), J3 A23/MUXsel2 (io), J4 A25/OE (io), J13 C17/OE (io), J14 C19/MUXsel2 (io), J15 C18/MUXsel1 (io), J16 C20/CLK/CLKEN (io), K1 A26/MUXsel1 (io), K2 A28/CLK/CLKEN (io), K3 A27/MUXsel2 (io), K4 A29/OE (io), K13 C13/OE (io), K14 C15/MUXsel2 (io), K15 C14/MUXsel1 (io), K16 C16/CLK/CLKEN (io), L1 A30/MUXsel1 (io), L2 A31/MUXsel2 (io), L3 A32/CLK/CLKEN (io), L14 C11/MUXsel2 (io), L15 C10/MUXsel1 (io), L16 C12/CLK/CLKEN (io), M1 A33/OE (io), M2 A34/MUXsel1 (io), M3 A35/MUXsel2 (io), M14 C7/MUXsel2 (io), M15 C8/CLK/CLKEN (io), M16 C9/OE (io), N1 A36/CLK/CLKEN (io), N2 A37/OE (io), N3 A38/MUXsel1 (io), N6 B13/OE (io), N7 B18/MUXsel1 (io), N8 Y0/CLKEN0 (in), N9 B21/OE (io), N10 B25/OE (io), N14 C3/MUXsel2 (io), N15 C5/OE (io), N16 C6/MUXsel1 (io), P1 A39/MUXsel2 (io), P2 B0/CLK/CLKEN (io), P3 B4/CLK/CLKEN (io), P4 B7/MUXsel2 (io), P5 B11/MUXsel2 (io), P6 B16/CLK/CLKEN (io), P8 TDO (out), P9 TDI (in), P10 B23/MUXsel2 (io), P11 B27/MUXsel2 (io), P12 B30/MUXsel1 (io), P13 B35/MUXsel2 (io), P14 C0/CLK/CLKEN (io), P15 C1/OE (io), P16 C4/CLK/CLKEN (io), R1 B1/OE (io), R2 B2/MUXsel1 (io), R3 B6/MUXsel1 (io), R4 B9/OE (io), R5 B12/CLK/CLKEN (io), R6 B15/MUXsel2 (io), R7 B19/MUXsel2 (io), R8 Y1/CLKEN1 (in), R9 B20/CLK/CLKEN (io), R10 B24/CLK/CLKEN (io), R11 B28/CLK/CLKEN (io), R12 B31/MUXsel2 (io), R13 B33/OE (io), R14 B36/CLK/CLKEN (io), R15 B39/MUXsel2 (io), R16 C2/MUXsel1 (io), T1 B3/MUXsel2 (io), T2 B5/OE (io), T3 B8/CLK/CLKEN (io), T4 B10/MUXsel1 (io), T5 B14/MUXsel1 (io), T6 B17/OE (io), T8 TMS (in), T9 TCK (in), T10 B22/MUXsel1 (io), T11 B26/MUXsel1 (io), T12 B29/OE (io), T13 B32/CLK/CLKEN (io), T14 B34/MUXsel1 (io), T15 B37/OE (io), T16 B38/MUXsel1 (io)
part B pins: A10 NC, D4 GND (power), D5 VCC (power), D6 VCC (power), D12 VCC (power), D13 GND (power), E4 VCC (power), E13 VCC (power), F4 VCC (power), F13 VCC (power), G7 GND (power), G8 GND (power), G9 GND (power), G10 GND (power), H7 GND (power), H8 GND (power), H9 GND (power), H10 GND (power), J7 GND (power), J8 GND (power), J9 GND (power), J10 GND (power), K7 GND (power), K8 GND (power), K9 GND (power), K10 GND (power), L4 VCC (power), L13 VCC (power), M4 VCC (power), M13 VCC (power), N4 GND (power), N5 VCC (power), N11 VCC (power), N12 VCC (power), N13 GND (power), P7 NC, T7 NC

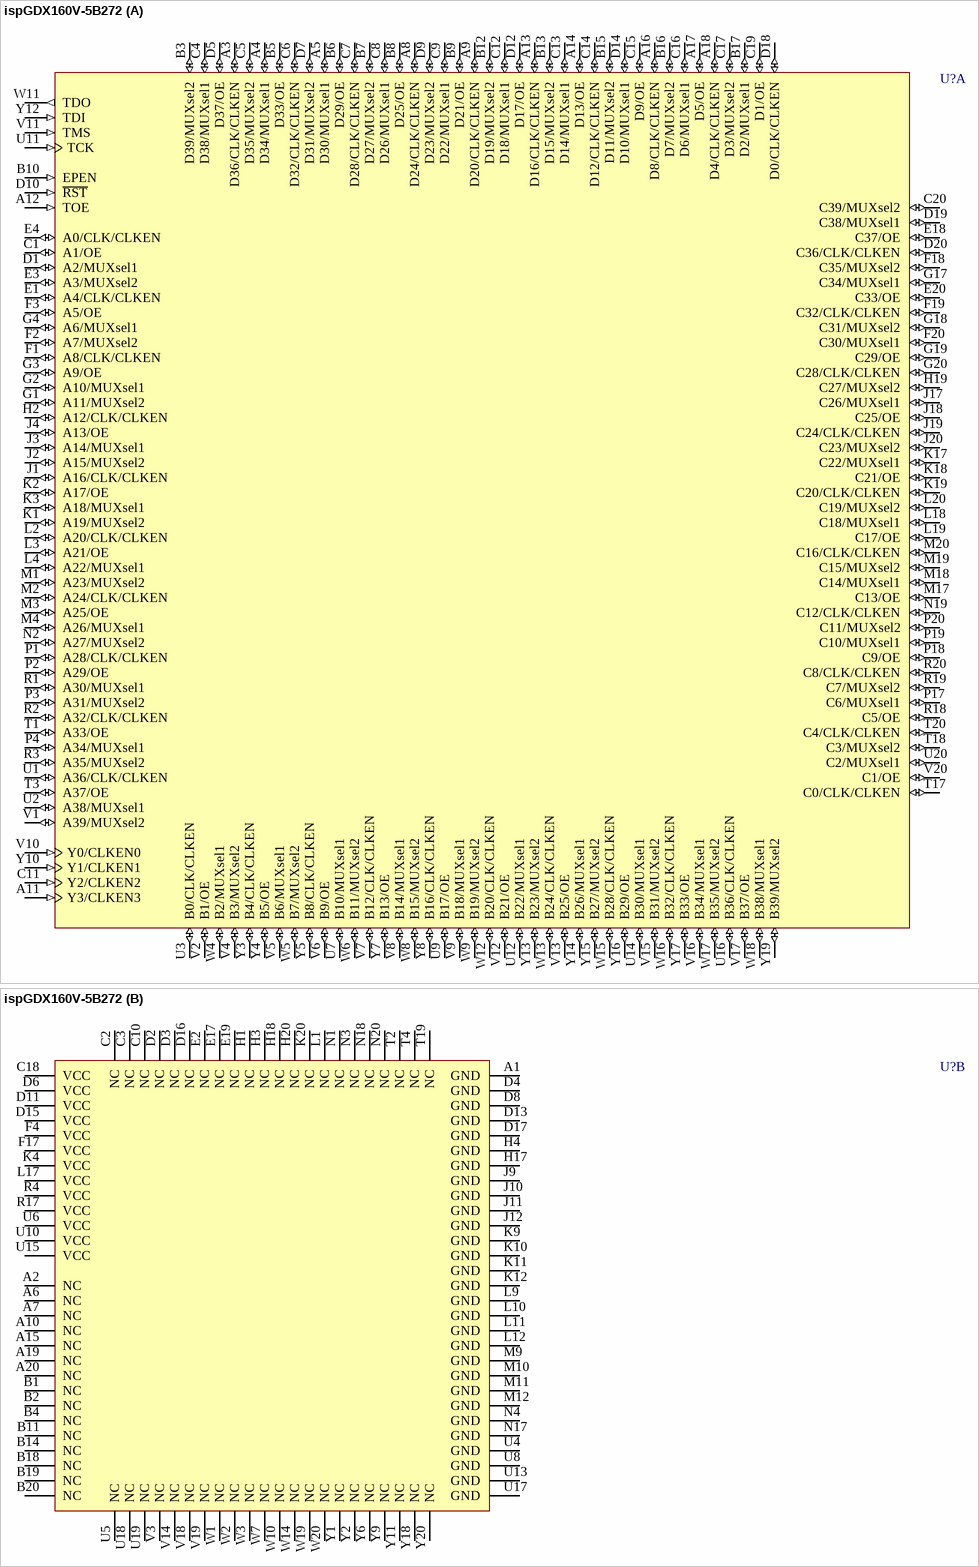
[diagram p13: symbol ispGDX160V-5B272]

## ispGDX160V-5B272
designator U?
In-System Programmable 3.3V Generic Digital Crosspoint; Note: NC pins are not to be connected to any active signals, VCC or GND.; Published: 17-Jul-2002; LatestRevisionDate: 13-Apr-2006; LatestRevisionNote: IPC-7351 Footprint Added.; DatasheetVersion: Jul-2000; PackageVersion: pkg_32, Aug-2005; PackageReference: BGA272; Publisher: Altium Limited; PackageDescription: 272-Ball Ball Grid Array (BGA272); ComponentLink1Description: Manufacturer Link; ComponentLink1URL: http://www.latticesemi.com/products/digin/ispGDXV/index.cfm; ComponentLink2Description: Datasheet; ComponentLink2URL: http://www.latticesemi.com/account/_download.cfm?AMID=126; ComponentLink3Description: Lattice Login; ComponentLink3URL: http://www.latticesemi.com/account/login.cfm
footprint BGA272 (BGA, 272-Leads, Body 27x27mm, Pitch 1.27mm)
3D model 160V-BGA272 (272-Ball Ball Grid Array (BGA272))
part A pins: A3 D36/CLK/CLKEN (io), A4 D34/MUXsel1 (io), A5 D30/MUXsel1 (io), A8 D24/CLK/CLKEN (io), A9 D20/CLK/CLKEN (io), A11 Y3/CLKEN3 (in), A12 TOE (in), A13 D16/CLK/CLKEN (io), A14 D13/OE (io), A16 D8/CLK/CLKEN (io), A17 D5/OE (io), A18 D4/CLK/CLKEN (io), B3 D39/MUXsel2 (io), B5 D33/OE (io), B6 D29/OE (io), B7 D27/MUXsel2 (io), B8 D25/OE (io), B9 D21/OE (io), B10 EPEN (in), B12 D19/MUXsel2 (io), B13 D15/MUXsel2 (io), B15 D11/MUXsel2 (io), B16 D7/MUXsel2 (io), B17 D2/MUXsel1 (io), C1 A1/OE (io), C4 D38/MUXsel1 (io), C5 D35/MUXsel2 (io), C6 D32/CLK/CLKEN (io), C7 D28/CLK/CLKEN (io), C8 D26/MUXsel1 (io), C9 D22/MUXsel1 (io), C11 Y2/CLKEN2 (in), C12 D18/MUXsel1 (io), C13 D14/MUXsel1 (io), C14 D12/CLK/CLKEN (io), C15 D9/OE (io), C16 D6/MUXsel1 (io), C17 D3/MUXsel2 (io), C19 D1/OE (io), C20 C39/MUXsel2 (io), D1 A2/MUXsel1 (io), D5 D37/OE (io), D7 D31/MUXsel2 (io), D9 D23/MUXsel2 (io), D10 ~{RST} (in), D12 D17/OE (io), D14 D10/MUXsel1 (io), D18 D0/CLK/CLKEN (io), D19 C38/MUXsel1 (io), D20 C36/CLK/CLKEN (io), E1 A4/CLK/CLKEN (io), E3 A3/MUXsel2 (io), E4 A0/CLK/CLKEN (io), E18 C37/OE (io), E20 C33/OE (io), F1 A8/CLK/CLKEN (io), F2 A7/MUXsel2 (io), F3 A5/OE (io), F18 C35/MUXsel2 (io), F19 C32/CLK/CLKEN (io), F20 C30/MUXsel1 (io), G1 A11/MUXsel2 (io), G2 A10/MUXsel1 (io), G3 A9/OE (io), G4 A6/MUXsel1 (io), G17 C34/MUXsel1 (io), G18 C31/MUXsel2 (io), G19 C29/OE (io), G20 C28/CLK/CLKEN (io), H2 A12/CLK/CLKEN (io), H19 C27/MUXsel2 (io), J1 A16/CLK/CLKEN (io), J2 A15/MUXsel2 (io), J3 A14/MUXsel1 (io), J4 A13/OE (io), J17 C26/MUXsel1 (io), J18 C25/OE (io), J19 C24/CLK/CLKEN (io), J20 C23/MUXsel2 (io), K1 A19/MUXsel2 (io), K2 A17/OE (io), K3 A18/MUXsel1 (io), K17 C22/MUXsel1 (io), K18 C21/OE (io), K19 C20/CLK/CLKEN (io), L2 A20/CLK/CLKEN (io), L3 A21/OE (io), L4 A22/MUXsel1 (io), L18 C18/MUXsel1 (io), L19 C17/OE (io), L20 C19/MUXsel2 (io), M1 A23/MUXsel2 (io), M2 A24/CLK/CLKEN (io), M3 A25/OE (io), M4 A26/MUXsel1 (io), M17 C13/OE (io), M18 C14/MUXsel1 (io), M19 C15/MUXsel2 (io), M20 C16/CLK/CLKEN (io), N2 A27/MUXsel2 (io), N19 C12/CLK/CLKEN (io), P1 A28/CLK/CLKEN (io), P2 A29/OE (io), P3 A31/MUXsel2 (io), P4 A34/MUXsel1 (io), P17 C6/MUXsel1 (io), P18 C9/OE (io), P19 C10/MUXsel1 (io), P20 C11/MUXsel2 (io), R1 A30/MUXsel1 (io), R2 A32/CLK/CLKEN (io), R3 A35/MUXsel2 (io), R18 C5/OE (io), R19 C7/MUXsel2 (io), R20 C8/CLK/CLKEN (io), T1 A33/OE (io), T3 A37/OE (io), T17 C0/CLK/CLKEN (io), T18 C3/MUXsel2 (io), T20 C4/CLK/CLKEN (io), U1 A36/CLK/CLKEN (io), U2 A38/MUXsel1 (io), U3 B0/CLK/CLKEN (io), U7 B10/MUXsel1 (io), U9 B17/OE (io), U11 TCK (in), U12 B22/MUXsel1 (io), U14 B30/MUXsel1 (io), U16 B36/CLK/CLKEN (io), U20 C2/MUXsel1 (io), V1 A39/MUXsel2 (io), V2 B1/OE (io), V4 B3/MUXsel2 (io), V5 B6/MUXsel1 (io), V6 B9/OE (io), V7 B12/CLK/CLKEN (io), V8 B14/MUXsel1 (io), V9 B18/MUXsel1 (io), V10 Y0/CLKEN0 (in), V11 TMS (in), V12 B21/OE (io), V13 B25/OE (io), V15 B31/MUXsel2 (io), V16 B34/MUXsel1 (io), V17 B37/OE (io), V20 C1/OE (io), W4 B2/MUXsel1 (io), W5 B7/MUXsel2 (io), W6 B11/MUXsel2 (io), W8 B15/MUXsel2 (io), W9 B19/MUXsel2 (io), W11 TDO (out), W12 B20/CLK/CLKEN (io), W13 B24/CLK/CLKEN (io), W15 B28/CLK/CLKEN (io), W16 B32/CLK/CLKEN (io), W17 B35/MUXsel2 (io), W18 B38/MUXsel1 (io), Y3 B4/CLK/CLKEN (io), Y4 B5/OE (io), Y5 B8/CLK/CLKEN (io), Y7 B13/OE (io), Y8 B16/CLK/CLKEN (io), Y10 Y1/CLKEN1 (in), Y12 TDI (in), Y13 B23/MUXsel2 (io), Y14 B26/MUXsel1 (io), Y15 B27/MUXsel2 (io), Y16 B29/OE (io), Y17 B33/OE (io), Y19 B39/MUXsel2 (io)
part B pins: A1 GND (power), A2 NC, A6 NC, A7 NC, A10 NC, A15 NC, A19 NC, A20 NC, B1 NC, B2 NC, B4 NC, B11 NC, B14 NC, B18 NC, B19 NC, B20 NC, C2 NC, C3 NC, C10 NC, C18 VCC (power), D2 NC, D3 NC, D4 GND (power), D6 VCC (power), D8 GND (power), D11 VCC (power), D13 GND (power), D15 VCC (power), D16 NC, D17 GND (power), E2 NC, E17 NC, E19 NC, F4 VCC (power), F17 VCC (power), H1 NC, H3 NC, H4 GND (power), H17 GND (power), H18 NC, H20 NC, J9 GND (power), J10 GND (power), J11 GND (power), J12 GND (power), K4 VCC (power), K9 GND (power), K10 GND (power), K11 GND (power), K12 GND (power), K20 NC, L1 NC, L9 GND (power), L10 GND (power), L11 GND (power), L12 GND (power), L17 VCC (power), M9 GND (power), M10 GND (power), M11 GND (power), M12 GND (power), N1 NC, N3 NC, N4 GND (power), N17 GND (power), N18 NC, N20 NC, R4 VCC (power), R17 VCC (power), T2 NC, T4 NC, T19 NC, U4 GND (power), U5 NC, U6 VCC (power), U8 GND (power), U10 VCC (power), U13 GND (power), U15 VCC (power), U17 GND (power), U18 NC, U19 NC, V3 NC, V14 NC, V18 NC, V19 NC, W1 NC, W2 NC, W3 NC, W7 NC, W10 NC, W14 NC, W19 NC, W20 NC, Y1 NC, Y2 NC, Y6 NC, Y9 NC, Y11 NC, Y18 NC, Y20 NC

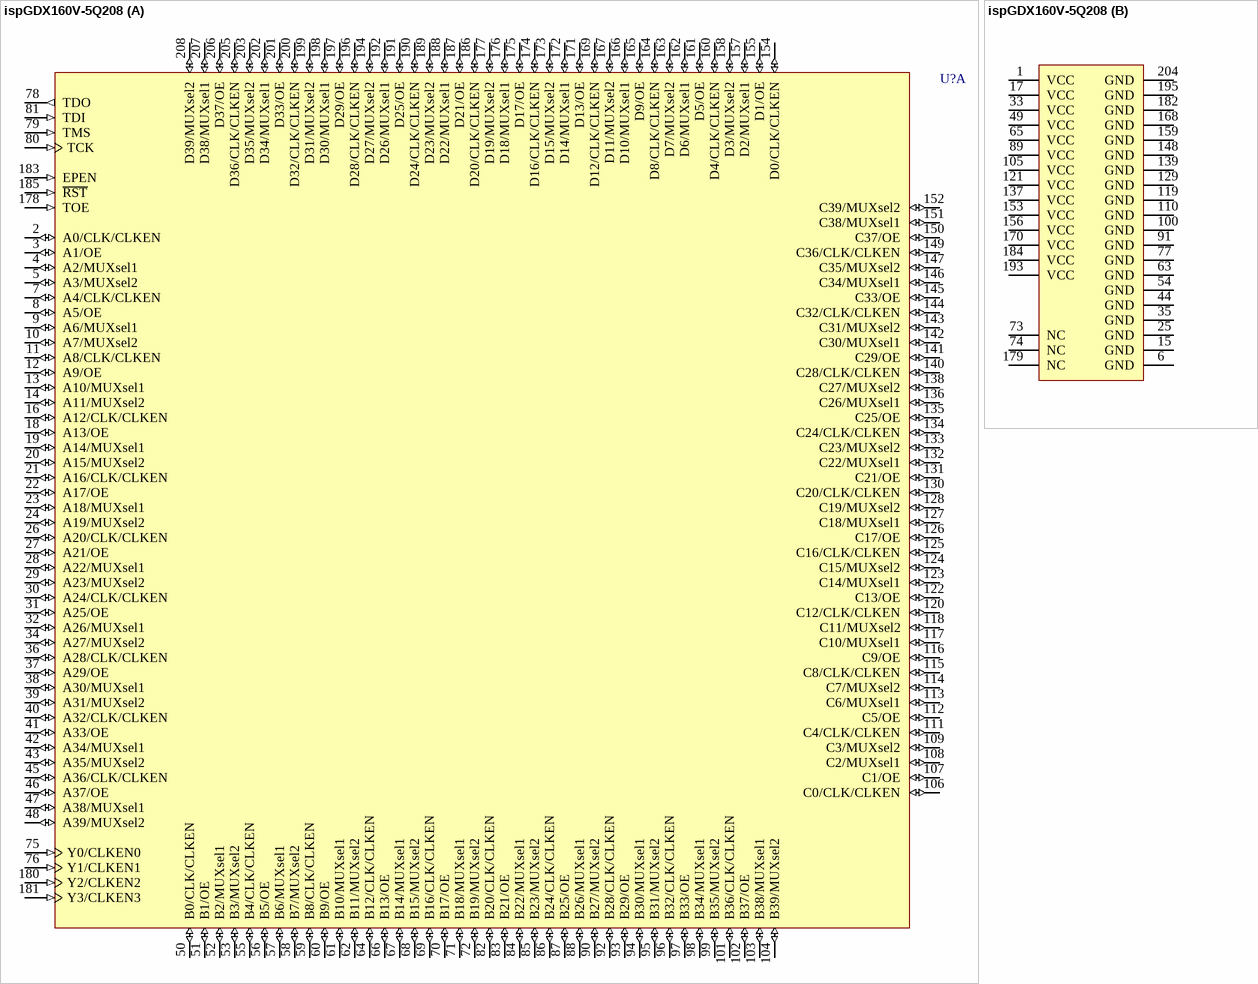
[diagram p14: symbol ispGDX160V-5Q208]

## ispGDX160V-5Q208
designator U?
In-System Programmable 3.3V Generic Digital Crosspoint; Note: NC pins are not to be connected to any active signals, VCC or GND.; Published: 17-Jul-2002; LatestRevisionDate: 13-Apr-2006; LatestRevisionNote: IPC-7351 Footprint Added.; DatasheetVersion: Jul-2000; PackageVersion: pkg_32, Aug-2005; PackageReference: PQFP208; Publisher: Altium Limited; PackageDescription: 208-Pin Plastic Quad Flat Pack (PQFP208); Code_JEDEC: MO-143-FAI; ComponentLink1Description: Manufacturer Link; ComponentLink1URL: http://www.latticesemi.com/products/digin/ispGDXV/index.cfm; ComponentLink2Description: Datasheet; ComponentLink2URL: http://www.latticesemi.com/account/_download.cfm?AMID=126; ComponentLink3Description: Lattice Login; ComponentLink3URL: http://www.latticesemi.com/account/login.cfm
footprint PQFP208_N (Shrink QFP, 208-Leads, Body 28x28mm, Pitch 0.5mm, IPC Medium Density)
footprint PQFP208_L (Shrink QFP, 208-Leads, Body 28x28mm, Pitch 0.5mm, IPC High Density)
footprint PQFP208_M (Shrink QFP, 208-Leads, Body 28x28mm, Pitch 0.5mm, IPC Low Density)
3D model 160V-PQFP208 (208-Pin Plastic Quad Flat Pack (PQFP208))
part A pins: 2 A0/CLK/CLKEN (io), 3 A1/OE (io), 4 A2/MUXsel1 (io), 5 A3/MUXsel2 (io), 7 A4/CLK/CLKEN (io), 8 A5/OE (io), 9 A6/MUXsel1 (io), 10 A7/MUXsel2 (io), 11 A8/CLK/CLKEN (io), 12 A9/OE (io), 13 A10/MUXsel1 (io), 14 A11/MUXsel2 (io), 16 A12/CLK/CLKEN (io), 18 A13/OE (io), 19 A14/MUXsel1 (io), 20 A15/MUXsel2 (io), 21 A16/CLK/CLKEN (io), 22 A17/OE (io), 23 A18/MUXsel1 (io), 24 A19/MUXsel2 (io), 26 A20/CLK/CLKEN (io), 27 A21/OE (io), 28 A22/MUXsel1 (io), 29 A23/MUXsel2 (io), 30 A24/CLK/CLKEN (io), 31 A25/OE (io), 32 A26/MUXsel1 (io), 34 A27/MUXsel2 (io), 36 A28/CLK/CLKEN (io), 37 A29/OE (io), 38 A30/MUXsel1 (io), 39 A31/MUXsel2 (io), 40 A32/CLK/CLKEN (io), 41 A33/OE (io), 42 A34/MUXsel1 (io), 43 A35/MUXsel2 (io), 45 A36/CLK/CLKEN (io), 46 A37/OE (io), 47 A38/MUXsel1 (io), 48 A39/MUXsel2 (io), 50 B0/CLK/CLKEN (io), 51 B1/OE (io), 52 B2/MUXsel1 (io), 53 B3/MUXsel2 (io), 55 B4/CLK/CLKEN (io), 56 B5/OE (io), 57 B6/MUXsel1 (io), 58 B7/MUXsel2 (io), 59 B8/CLK/CLKEN (io), 60 B9/OE (io), 61 B10/MUXsel1 (io), 62 B11/MUXsel2 (io), 64 B12/CLK/CLKEN (io), 66 B13/OE (io), 67 B14/MUXsel1 (io), 68 B15/MUXsel2 (io), 69 B16/CLK/CLKEN (io), 70 B17/OE (io), 71 B18/MUXsel1 (io), 72 B19/MUXsel2 (io), 75 Y0/CLKEN0 (in), 76 Y1/CLKEN1 (in), 78 TDO (out), 79 TMS (in), 80 TCK (in), 81 TDI (in), 82 B20/CLK/CLKEN (io), 83 B21/OE (io), 84 B22/MUXsel1 (io), 85 B23/MUXsel2 (io), 86 B24/CLK/CLKEN (io), 87 B25/OE (io), 88 B26/MUXsel1 (io), 90 B27/MUXsel2 (io), 92 B28/CLK/CLKEN (io), 93 B29/OE (io), 94 B30/MUXsel1 (io), 95 B31/MUXsel2 (io), 96 B32/CLK/CLKEN (io), 97 B33/OE (io), 98 B34/MUXsel1 (io), 99 B35/MUXsel2 (io), 101 B36/CLK/CLKEN (io), 102 B37/OE (io), 103 B38/MUXsel1 (io), 104 B39/MUXsel2 (io), 106 C0/CLK/CLKEN (io), 107 C1/OE (io), 108 C2/MUXsel1 (io), 109 C3/MUXsel2 (io), 111 C4/CLK/CLKEN (io), 112 C5/OE (io), 113 C6/MUXsel1 (io), 114 C7/MUXsel2 (io), 115 C8/CLK/CLKEN (io), 116 C9/OE (io), 117 C10/MUXsel1 (io), 118 C11/MUXsel2 (io), 120 C12/CLK/CLKEN (io), 122 C13/OE (io), 123 C14/MUXsel1 (io), 124 C15/MUXsel2 (io), 125 C16/CLK/CLKEN (io), 126 C17/OE (io), 127 C18/MUXsel1 (io), 128 C19/MUXsel2 (io), 130 C20/CLK/CLKEN (io), 131 C21/OE (io), 132 C22/MUXsel1 (io), 133 C23/MUXsel2 (io), 134 C24/CLK/CLKEN (io), 135 C25/OE (io), 136 C26/MUXsel1 (io), 138 C27/MUXsel2 (io), 140 C28/CLK/CLKEN (io), 141 C29/OE (io), 142 C30/MUXsel1 (io), 143 C31/MUXsel2 (io), 144 C32/CLK/CLKEN (io), 145 C33/OE (io), 146 C34/MUXsel1 (io), 147 C35/MUXsel2 (io), 149 C36/CLK/CLKEN (io), 150 C37/OE (io), 151 C38/MUXsel1 (io), 152 C39/MUXsel2 (io), 154 D0/CLK/CLKEN (io), 155 D1/OE (io), 157 D2/MUXsel1 (io), 158 D3/MUXsel2 (io), 160 D4/CLK/CLKEN (io), 161 D5/OE (io), 162 D6/MUXsel1 (io), 163 D7/MUXsel2 (io), 164 D8/CLK/CLKEN (io), 165 D9/OE (io), 166 D10/MUXsel1 (io), 167 D11/MUXsel2 (io), 169 D12/CLK/CLKEN (io), 171 D13/OE (io), 172 D14/MUXsel1 (io), 173 D15/MUXsel2 (io), 174 D16/CLK/CLKEN (io), 175 D17/OE (io), 176 D18/MUXsel1 (io), 177 D19/MUXsel2 (io), 178 TOE (in), 180 Y2/CLKEN2 (in), 181 Y3/CLKEN3 (in), 183 EPEN (in), 185 ~{RST} (in), 186 D20/CLK/CLKEN (io), 187 D21/OE (io), 188 D22/MUXsel1 (io), 189 D23/MUXsel2 (io), 190 D24/CLK/CLKEN (io), 191 D25/OE (io), 192 D26/MUXsel1 (io), 194 D27/MUXsel2 (io), 196 D28/CLK/CLKEN (io), 197 D29/OE (io), 198 D30/MUXsel1 (io), 199 D31/MUXsel2 (io), 200 D32/CLK/CLKEN (io), 201 D33/OE (io), 202 D34/MUXsel1 (io), 203 D35/MUXsel2 (io), 205 D36/CLK/CLKEN (io), 206 D37/OE (io), 207 D38/MUXsel1 (io), 208 D39/MUXsel2 (io)
part B pins: 1 VCC (power), 6 GND (power), 15 GND (power), 17 VCC (power), 25 GND (power), 33 VCC (power), 35 GND (power), 44 GND (power), 49 VCC (power), 54 GND (power), 63 GND (power), 65 VCC (power), 73 NC, 74 NC, 77 GND (power), 89 VCC (power), 91 GND (power), 100 GND (power), 105 VCC (power), 110 GND (power), 119 GND (power), 121 VCC (power), 129 GND (power), 137 VCC (power), 139 GND (power), 148 GND (power), 153 VCC (power), 156 VCC (power), 159 GND (power), 168 GND (power), 170 VCC (power), 179 NC, 182 GND (power), 184 VCC (power), 193 VCC (power), 195 GND (power), 204 GND (power)

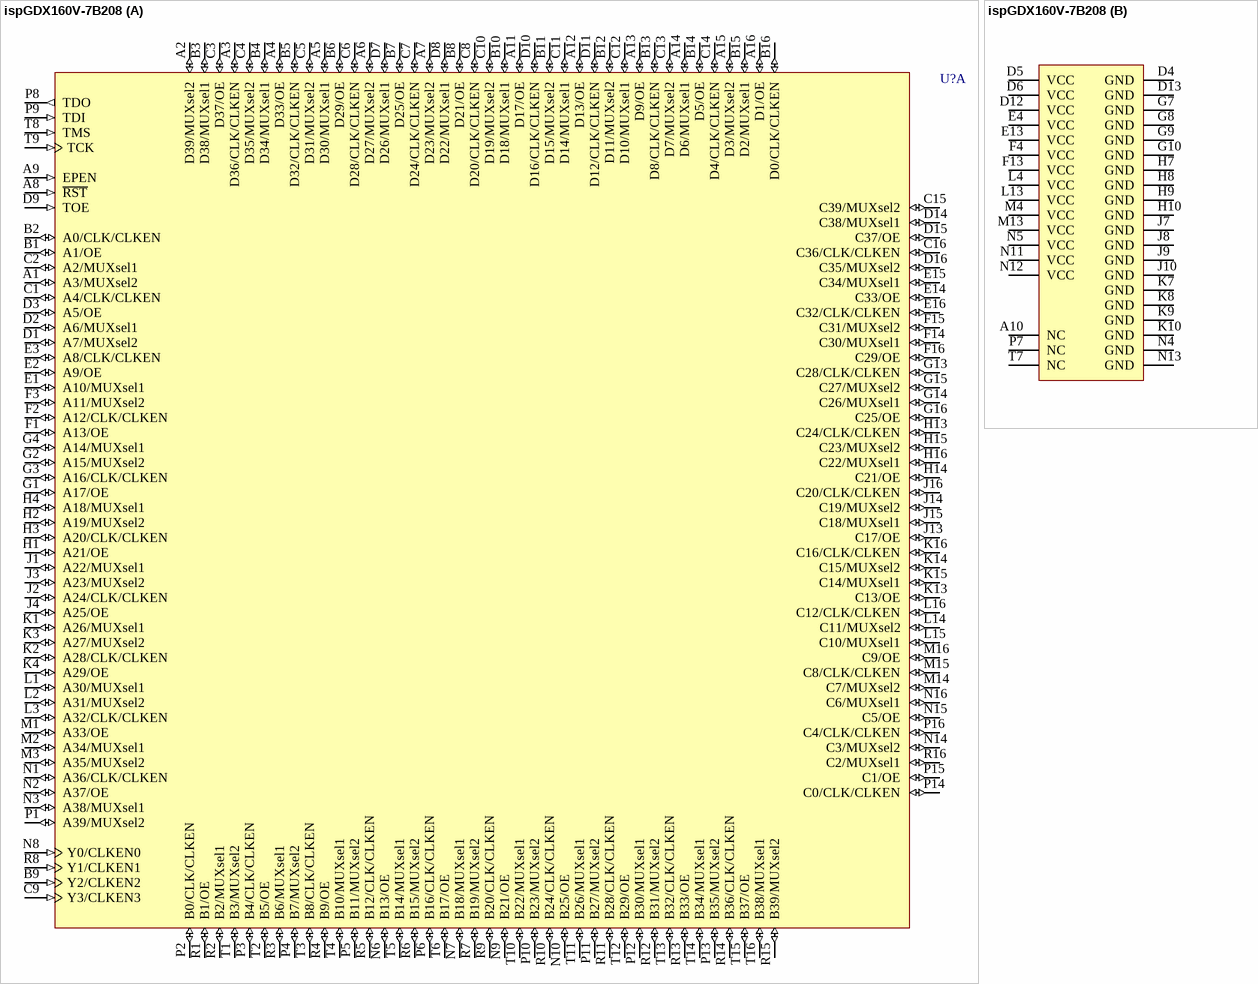
[diagram p15: symbol ispGDX160V-7B208]